# Altium schematic symbol library FPGA_Xilinx_Kintex7.SchLib: 18 symbols (part 1 of 6)
Pins are listed as number, name and electrical type; pins without a type are passive.

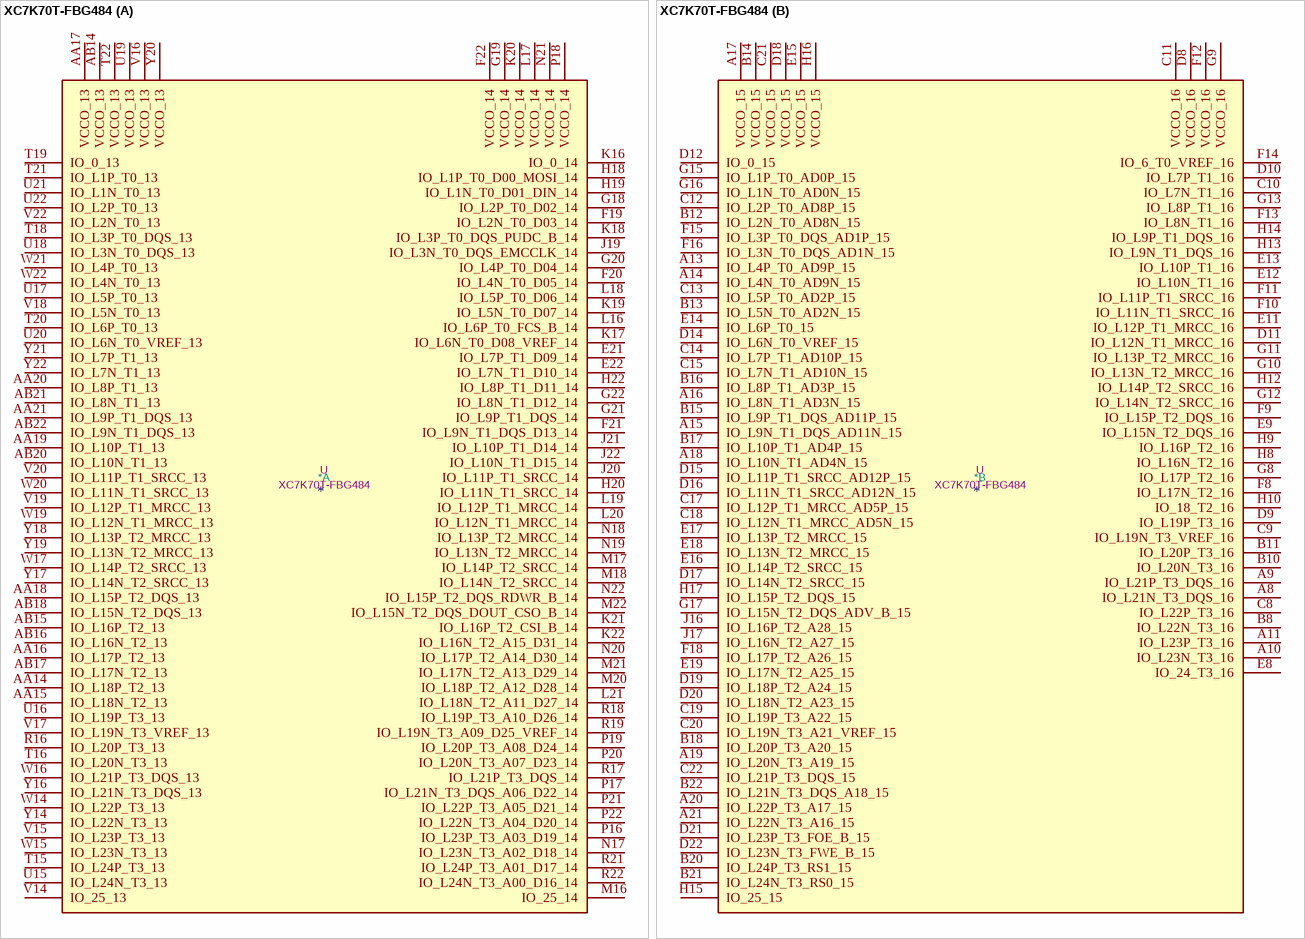
[diagram p0: symbol XC7K70T-FBG484]

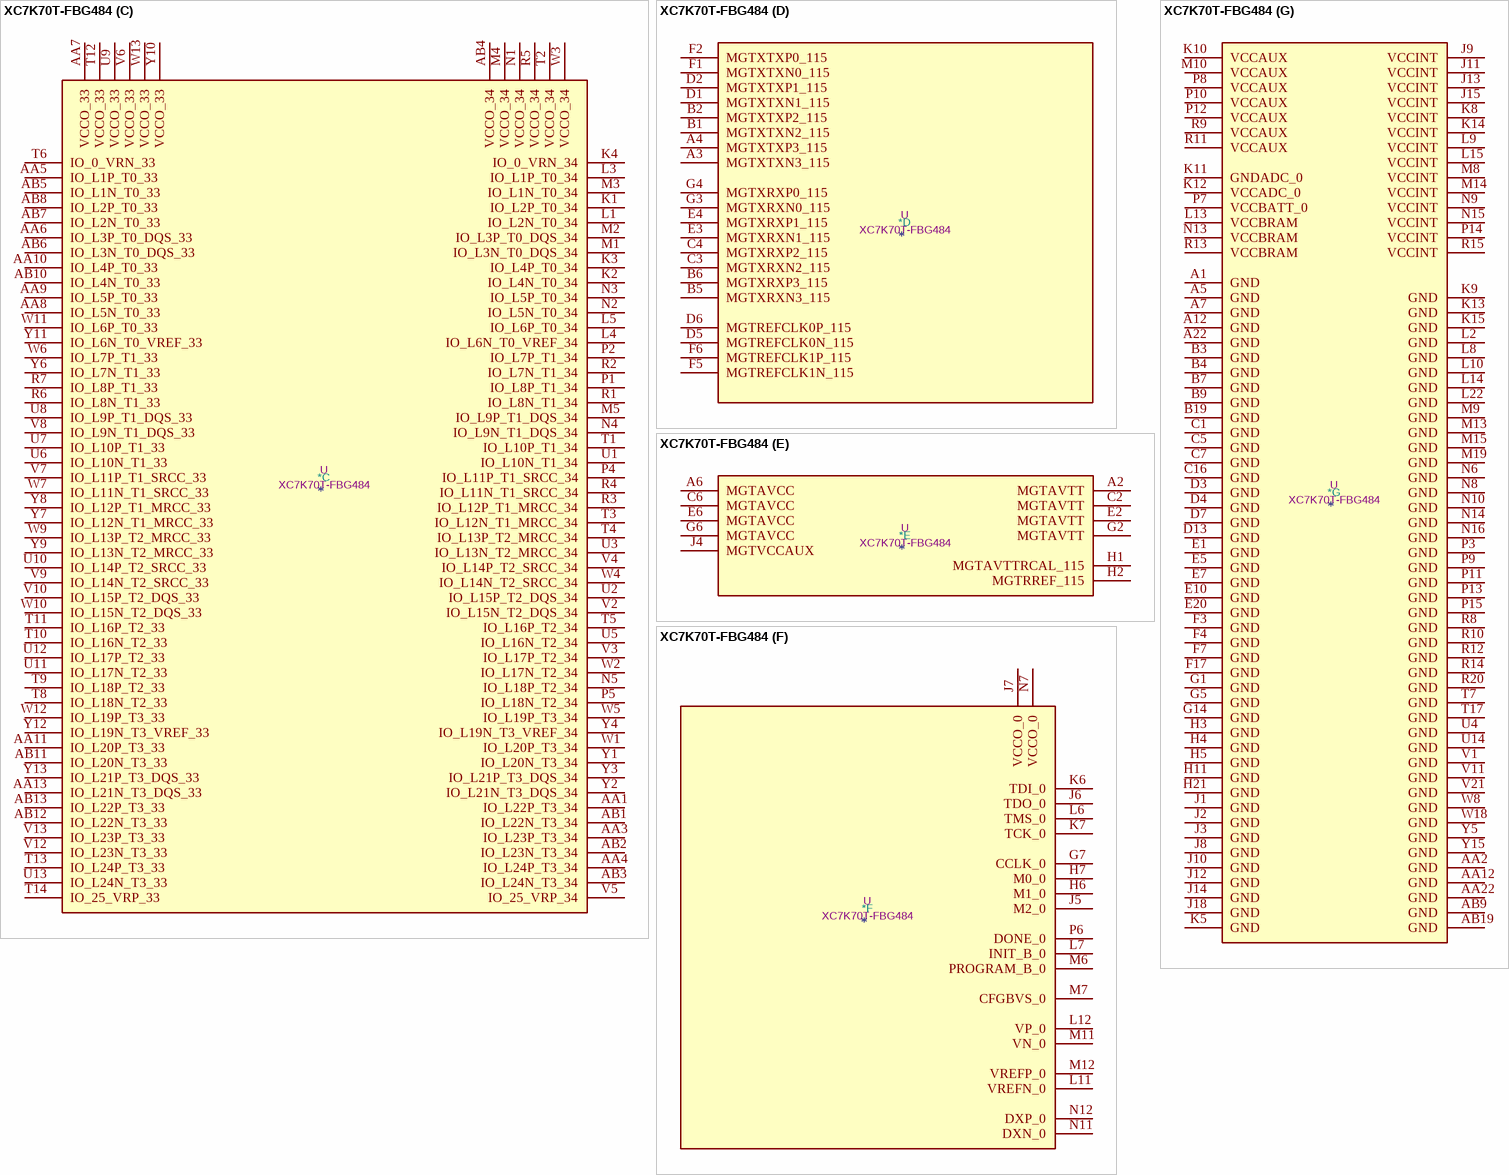
[diagram p1: symbol XC7K70T-FBG484]

## XC7K70T-FBG484
designator *  value XC7K70T-FBG484  Reference: U
ki_keywords: FPGA; ki_description: Kintex 7 T 70 XC7K70T-FBG484
part A pins: AA14 IO_L18P_T2_13, AA15 IO_L18N_T2_13, AA16 IO_L17P_T2_13, AA17 VCCO_13, AA18 IO_L15P_T2_DQS_13, AA19 IO_L10P_T1_13, AA20 IO_L8P_T1_13, AA21 IO_L9P_T1_DQS_13, AB14 VCCO_13, AB15 IO_L16P_T2_13, AB16 IO_L16N_T2_13, AB17 IO_L17N_T2_13, AB18 IO_L15N_T2_DQS_13, AB20 IO_L10N_T1_13, AB21 IO_L8N_T1_13, AB22 IO_L9N_T1_DQS_13, E21 IO_L7P_T1_D09_14, E22 IO_L7N_T1_D10_14, F19 IO_L2N_T0_D03_14, F20 IO_L4N_T0_D05_14, F21 IO_L9N_T1_DQS_D13_14, F22 VCCO_14, G18 IO_L2P_T0_D02_14, G19 VCCO_14, G20 IO_L4P_T0_D04_14, G21 IO_L9P_T1_DQS_14, G22 IO_L8N_T1_D12_14, H18 IO_L1P_T0_D00_MOSI_14, H19 IO_L1N_T0_D01_DIN_14, H20 IO_L11N_T1_SRCC_14, H22 IO_L8P_T1_D11_14, J19 IO_L3N_T0_DQS_EMCCLK_14, J20 IO_L11P_T1_SRCC_14, J21 IO_L10P_T1_D14_14, J22 IO_L10N_T1_D15_14, K16 IO_0_14, K17 IO_L6N_T0_D08_VREF_14, K18 IO_L3P_T0_DQS_PUDC_B_14, K19 IO_L5N_T0_D07_14, K20 VCCO_14, K21 IO_L16P_T2_CSI_B_14, K22 IO_L16N_T2_A15_D31_14, L16 IO_L6P_T0_FCS_B_14, L17 VCCO_14, L18 IO_L5P_T0_D06_14, L19 IO_L12P_T1_MRCC_14, L20 IO_L12N_T1_MRCC_14, L21 IO_L18N_T2_A11_D27_14, M16 IO_25_14, M17 IO_L14P_T2_SRCC_14, M18 IO_L14N_T2_SRCC_14, M20 IO_L18P_T2_A12_D28_14, M21 IO_L17N_T2_A13_D29_14, M22 IO_L15N_T2_DQS_DOUT_CSO_B_14, N17 IO_L23N_T3_A02_D18_14, N18 IO_L13P_T2_MRCC_14, N19 IO_L13N_T2_MRCC_14, N20 IO_L17P_T2_A14_D30_14, N21 VCCO_14, N22 IO_L15P_T2_DQS_RDWR_B_14, P16 IO_L23P_T3_A03_D19_14, P17 IO_L21N_T3_DQS_A06_D22_14, P18 VCCO_14, P19 IO_L20P_T3_A08_D24_14, P20 IO_L20N_T3_A07_D23_14, P21 IO_L22P_T3_A05_D21_14, P22 IO_L22N_T3_A04_D20_14, R16 IO_L20P_T3_13, R17 IO_L21P_T3_DQS_14, R18 IO_L19P_T3_A10_D26_14, R19 IO_L19N_T3_A09_D25_VREF_14, R21 IO_L24P_T3_A01_D17_14, R22 IO_L24N_T3_A00_D16_14, T15 IO_L24P_T3_13, T16 IO_L20N_T3_13, T18 IO_L3P_T0_DQS_13, T19 IO_0_13, T20 IO_L6P_T0_13, T21 IO_L1P_T0_13, T22 VCCO_13, U15 IO_L24N_T3_13, U16 IO_L19P_T3_13, U17 IO_L5P_T0_13, U18 IO_L3N_T0_DQS_13, U19 VCCO_13, U20 IO_L6N_T0_VREF_13, U21 IO_L1N_T0_13, U22 IO_L2P_T0_13, V14 IO_25_13, V15 IO_L23P_T3_13, V16 VCCO_13, V17 IO_L19N_T3_VREF_13, V18 IO_L5N_T0_13, V19 IO_L12P_T1_MRCC_13, V20 IO_L11P_T1_SRCC_13, V22 IO_L2N_T0_13, W14 IO_L22P_T3_13, W15 IO_L23N_T3_13, W16 IO_L21P_T3_DQS_13, W17 IO_L14P_T2_SRCC_13, W19 IO_L12N_T1_MRCC_13, W20 IO_L11N_T1_SRCC_13, W21 IO_L4P_T0_13, W22 IO_L4N_T0_13, Y14 IO_L22N_T3_13, Y16 IO_L21N_T3_DQS_13, Y17 IO_L14N_T2_SRCC_13, Y18 IO_L13P_T2_MRCC_13, Y19 IO_L13N_T2_MRCC_13, Y20 VCCO_13, Y21 IO_L7P_T1_13, Y22 IO_L7N_T1_13
part B pins: A8 IO_L21N_T3_DQS_16, A9 IO_L21P_T3_DQS_16, A10 IO_L23N_T3_16, A11 IO_L23P_T3_16, A13 IO_L4P_T0_AD9P_15, A14 IO_L4N_T0_AD9N_15, A15 IO_L9N_T1_DQS_AD11N_15, A16 IO_L8N_T1_AD3N_15, A17 VCCO_15, A18 IO_L10N_T1_AD4N_15, A19 IO_L20N_T3_A19_15, A20 IO_L22P_T3_A17_15, A21 IO_L22N_T3_A16_15, B8 IO_L22N_T3_16, B10 IO_L20N_T3_16, B11 IO_L20P_T3_16, B12 IO_L2N_T0_AD8N_15, B13 IO_L5N_T0_AD2N_15, B14 VCCO_15, B15 IO_L9P_T1_DQS_AD11P_15, B16 IO_L8P_T1_AD3P_15, B17 IO_L10P_T1_AD4P_15, B18 IO_L20P_T3_A20_15, B20 IO_L24P_T3_RS1_15, B21 IO_L24N_T3_RS0_15, B22 IO_L21N_T3_DQS_A18_15, C8 IO_L22P_T3_16, C9 IO_L19N_T3_VREF_16, C10 IO_L7N_T1_16, C11 VCCO_16, C12 IO_L2P_T0_AD8P_15, C13 IO_L5P_T0_AD2P_15, C14 IO_L7P_T1_AD10P_15, C15 IO_L7N_T1_AD10N_15, C17 IO_L12P_T1_MRCC_AD5P_15, C18 IO_L12N_T1_MRCC_AD5N_15, C19 IO_L19P_T3_A22_15, C20 IO_L19N_T3_A21_VREF_15, C21 VCCO_15, C22 IO_L21P_T3_DQS_15, D8 VCCO_16, D9 IO_L19P_T3_16, D10 IO_L7P_T1_16, D11 IO_L12N_T1_MRCC_16, D12 IO_0_15, D14 IO_L6N_T0_VREF_15, D15 IO_L11P_T1_SRCC_AD12P_15, D16 IO_L11N_T1_SRCC_AD12N_15, D17 IO_L14N_T2_SRCC_15, D18 VCCO_15, D19 IO_L18P_T2_A24_15, D20 IO_L18N_T2_A23_15, D21 IO_L23P_T3_FOE_B_15, D22 IO_L23N_T3_FWE_B_15, E8 IO_24_T3_16, E9 IO_L15N_T2_DQS_16, E11 IO_L12P_T1_MRCC_16, E12 IO_L10N_T1_16, E13 IO_L10P_T1_16, E14 IO_L6P_T0_15, E15 VCCO_15, E16 IO_L14P_T2_SRCC_15, E17 IO_L13P_T2_MRCC_15, E18 IO_L13N_T2_MRCC_15, E19 IO_L17N_T2_A25_15, F8 IO_L17N_T2_16, F9 IO_L15P_T2_DQS_16, F10 IO_L11N_T1_SRCC_16, F11 IO_L11P_T1_SRCC_16, F12 VCCO_16, F13 IO_L8N_T1_16, F14 IO_6_T0_VREF_16, F15 IO_L3P_T0_DQS_AD1P_15, F16 IO_L3N_T0_DQS_AD1N_15, F18 IO_L17P_T2_A26_15, G8 IO_L17P_T2_16, G9 VCCO_16, G10 IO_L13N_T2_MRCC_16, G11 IO_L13P_T2_MRCC_16, G12 IO_L14N_T2_SRCC_16, G13 IO_L8P_T1_16, G15 IO_L1P_T0_AD0P_15, G16 IO_L1N_T0_AD0N_15, G17 IO_L15N_T2_DQS_ADV_B_15, H8 IO_L16N_T2_16, H9 IO_L16P_T2_16, H10 IO_18_T2_16, H12 IO_L14P_T2_SRCC_16, H13 IO_L9N_T1_DQS_16, H14 IO_L9P_T1_DQS_16, H15 IO_25_15, H16 VCCO_15, H17 IO_L15P_T2_DQS_15, J16 IO_L16P_T2_A28_15, J17 IO_L16N_T2_A27_15
part C pins: AA1 IO_L22P_T3_34, AA3 IO_L23P_T3_34, AA4 IO_L24P_T3_34, AA5 IO_L1P_T0_33, AA6 IO_L3P_T0_DQS_33, AA7 VCCO_33, AA8 IO_L5N_T0_33, AA9 IO_L5P_T0_33, AA10 IO_L4P_T0_33, AA11 IO_L20P_T3_33, AA13 IO_L21N_T3_DQS_33, AB1 IO_L22N_T3_34, AB2 IO_L23N_T3_34, AB3 IO_L24N_T3_34, AB4 VCCO_34, AB5 IO_L1N_T0_33, AB6 IO_L3N_T0_DQS_33, AB7 IO_L2N_T0_33, AB8 IO_L2P_T0_33, AB10 IO_L4N_T0_33, AB11 IO_L20N_T3_33, AB12 IO_L22N_T3_33, AB13 IO_L22P_T3_33, K1 IO_L2P_T0_34, K2 IO_L4N_T0_34, K3 IO_L4P_T0_34, K4 IO_0_VRN_34, L1 IO_L2N_T0_34, L3 IO_L1P_T0_34, L4 IO_L6N_T0_VREF_34, L5 IO_L6P_T0_34, M1 IO_L3N_T0_DQS_34, M2 IO_L3P_T0_DQS_34, M3 IO_L1N_T0_34, M4 VCCO_34, M5 IO_L9P_T1_DQS_34, N1 VCCO_34, N2 IO_L5N_T0_34, N3 IO_L5P_T0_34, N4 IO_L9N_T1_DQS_34, N5 IO_L18P_T2_34, P1 IO_L8P_T1_34, P2 IO_L7P_T1_34, P4 IO_L11P_T1_SRCC_34, P5 IO_L18N_T2_34, R1 IO_L8N_T1_34, R2 IO_L7N_T1_34, R3 IO_L12P_T1_MRCC_34, R4 IO_L11N_T1_SRCC_34, R5 VCCO_34, R6 IO_L8N_T1_33, R7 IO_L8P_T1_33, T1 IO_L10P_T1_34, T2 VCCO_34, T3 IO_L12N_T1_MRCC_34, T4 IO_L13P_T2_MRCC_34, T5 IO_L16P_T2_34, T6 IO_0_VRN_33, T8 IO_L18N_T2_33, T9 IO_L18P_T2_33, T10 IO_L16N_T2_33, T11 IO_L16P_T2_33, T12 VCCO_33, T13 IO_L24P_T3_33, T14 IO_25_VRP_33, U1 IO_L10N_T1_34, U2 IO_L15P_T2_DQS_34, U3 IO_L13N_T2_MRCC_34, U5 IO_L16N_T2_34, U6 IO_L10N_T1_33, U7 IO_L10P_T1_33, U8 IO_L9P_T1_DQS_33, U9 VCCO_33, U10 IO_L14P_T2_SRCC_33, U11 IO_L17N_T2_33, U12 IO_L17P_T2_33, U13 IO_L24N_T3_33, V2 IO_L15N_T2_DQS_34, V3 IO_L17P_T2_34, V4 IO_L14P_T2_SRCC_34, V5 IO_25_VRP_34, V6 VCCO_33, V7 IO_L11P_T1_SRCC_33, V8 IO_L9N_T1_DQS_33, V9 IO_L14N_T2_SRCC_33, V10 IO_L15P_T2_DQS_33, V12 IO_L23N_T3_33, V13 IO_L23P_T3_33, W1 IO_L20P_T3_34, W2 IO_L17N_T2_34, W3 VCCO_34, W4 IO_L14N_T2_SRCC_34, W5 IO_L19P_T3_34, W6 IO_L7P_T1_33, W7 IO_L11N_T1_SRCC_33, W9 IO_L13P_T2_MRCC_33, W10 IO_L15N_T2_DQS_33, W11 IO_L6P_T0_33, W12 IO_L19P_T3_33, W13 VCCO_33, Y1 IO_L20N_T3_34, Y2 IO_L21N_T3_DQS_34, Y3 IO_L21P_T3_DQS_34, Y4 IO_L19N_T3_VREF_34, Y6 IO_L7N_T1_33, Y7 IO_L12N_T1_MRCC_33, Y8 IO_L12P_T1_MRCC_33, Y9 IO_L13N_T2_MRCC_33, Y10 VCCO_33, Y11 IO_L6N_T0_VREF_33, Y12 IO_L19N_T3_VREF_33, Y13 IO_L21P_T3_DQS_33
part D pins: A3 MGTXTXN3_115, A4 MGTXTXP3_115, B1 MGTXTXN2_115, B2 MGTXTXP2_115, B5 MGTXRXN3_115, B6 MGTXRXP3_115, C3 MGTXRXN2_115, C4 MGTXRXP2_115, D1 MGTXTXN1_115, D2 MGTXTXP1_115, D5 MGTREFCLK0N_115, D6 MGTREFCLK0P_115, E3 MGTXRXN1_115, E4 MGTXRXP1_115, F1 MGTXTXN0_115, F2 MGTXTXP0_115, F5 MGTREFCLK1N_115, F6 MGTREFCLK1P_115, G3 MGTXRXN0_115, G4 MGTXRXP0_115
part E pins: A2 MGTAVTT, A6 MGTAVCC, C2 MGTAVTT, C6 MGTAVCC, E2 MGTAVTT, E6 MGTAVCC, G2 MGTAVTT, G6 MGTAVCC, H1 MGTAVTTRCAL_115, H2 MGTRREF_115, J4 MGTVCCAUX
part F pins: G7 CCLK_0, H6 M1_0, H7 M0_0, J5 M2_0, J6 TDO_0, J7 VCCO_0, K6 TDI_0, K7 TCK_0, L6 TMS_0, L7 INIT_B_0, L11 VREFN_0, L12 VP_0, M6 PROGRAM_B_0, M7 CFGBVS_0, M11 VN_0, M12 VREFP_0, N7 VCCO_0, N11 DXN_0, N12 DXP_0, P6 DONE_0
part G pins: A1 GND, A5 GND, A7 GND, A12 GND, A22 GND, AA2 GND, AA12 GND, AA22 GND, AB9 GND, AB19 GND, B3 GND, B4 GND, B7 GND, B9 GND, B19 GND, C1 GND, C5 GND, C7 GND, C16 GND, D3 GND, D4 GND, D7 GND, D13 GND, E1 GND, E5 GND, E7 GND, E10 GND, E20 GND, F3 GND, F4 GND, F7 GND, F17 GND, G1 GND, G5 GND, G14 GND, H3 GND, H4 GND, H5 GND, H11 GND, H21 GND, J1 GND, J2 GND, J3 GND, J8 GND, J9 VCCINT, J10 GND, J11 VCCINT, J12 GND, J13 VCCINT, J14 GND, J15 VCCINT, J18 GND, K5 GND, K8 VCCINT, K9 GND, K10 VCCAUX, K11 GNDADC_0, K12 VCCADC_0, K13 GND, K14 VCCINT, K15 GND, L2 GND, L8 GND, L9 VCCINT, L10 GND, L13 VCCBRAM, L14 GND, L15 VCCINT, L22 GND, M8 VCCINT, M9 GND, M10 VCCAUX, M13 GND, M14 VCCINT, M15 GND, M19 GND, N6 GND, N8 GND, N9 VCCINT, N10 GND, N13 VCCBRAM, N14 GND, N15 VCCINT, N16 GND, P3 GND, P7 VCCBATT_0, P8 VCCAUX, P9 GND, P10 VCCAUX, P11 GND, P12 VCCAUX, P13 GND, P14 VCCINT, P15 GND, R8 GND, R9 VCCAUX, R10 GND, R11 VCCAUX, R12 GND, R13 VCCBRAM, R14 GND, R15 VCCINT, R20 GND, T7 GND, T17 GND, U4 GND, U14 GND, V1 GND, V11 GND, V21 GND, W8 GND, W18 GND, Y5 GND, Y15 GND

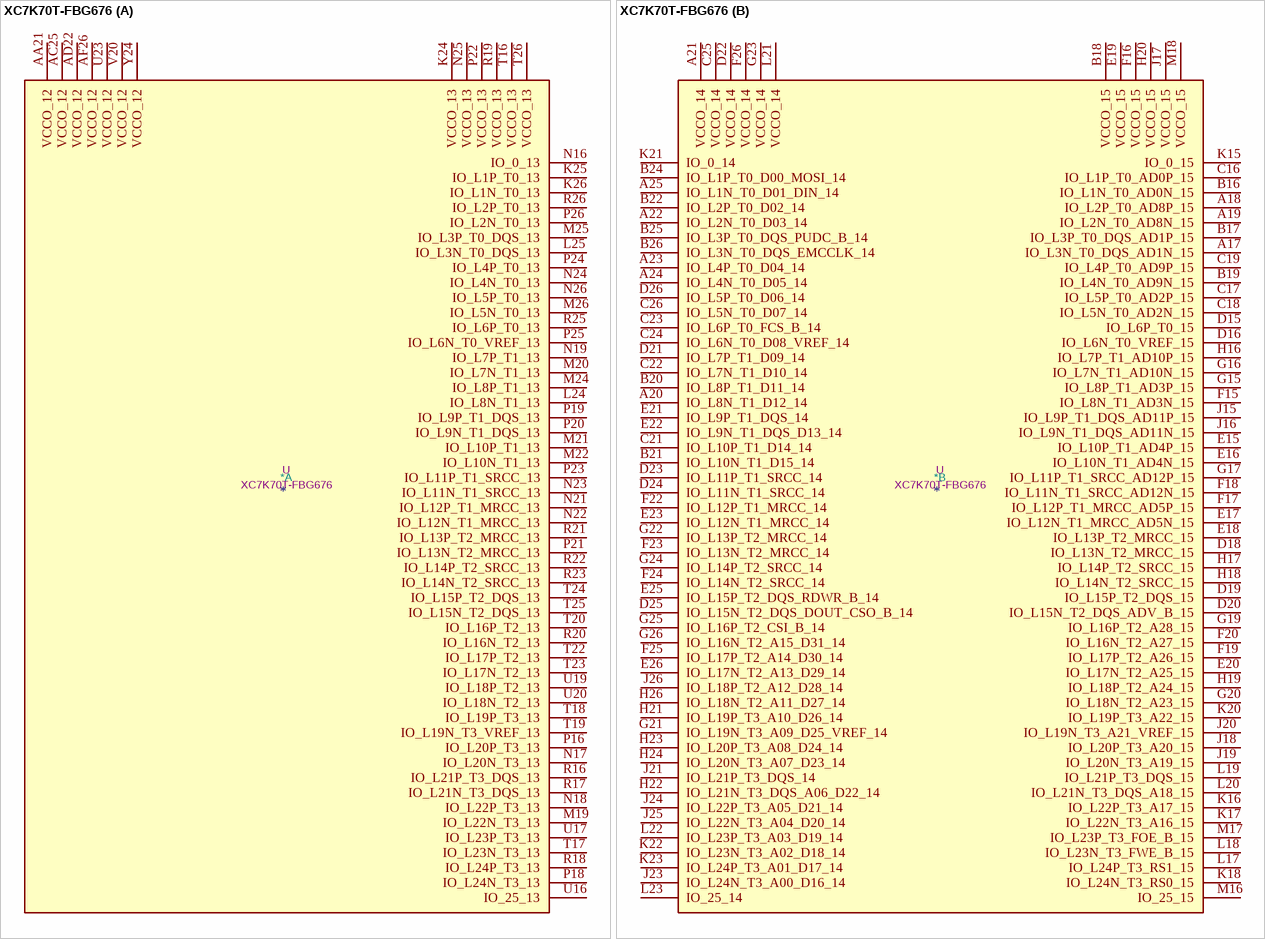
[diagram p2: symbol XC7K70T-FBG676]

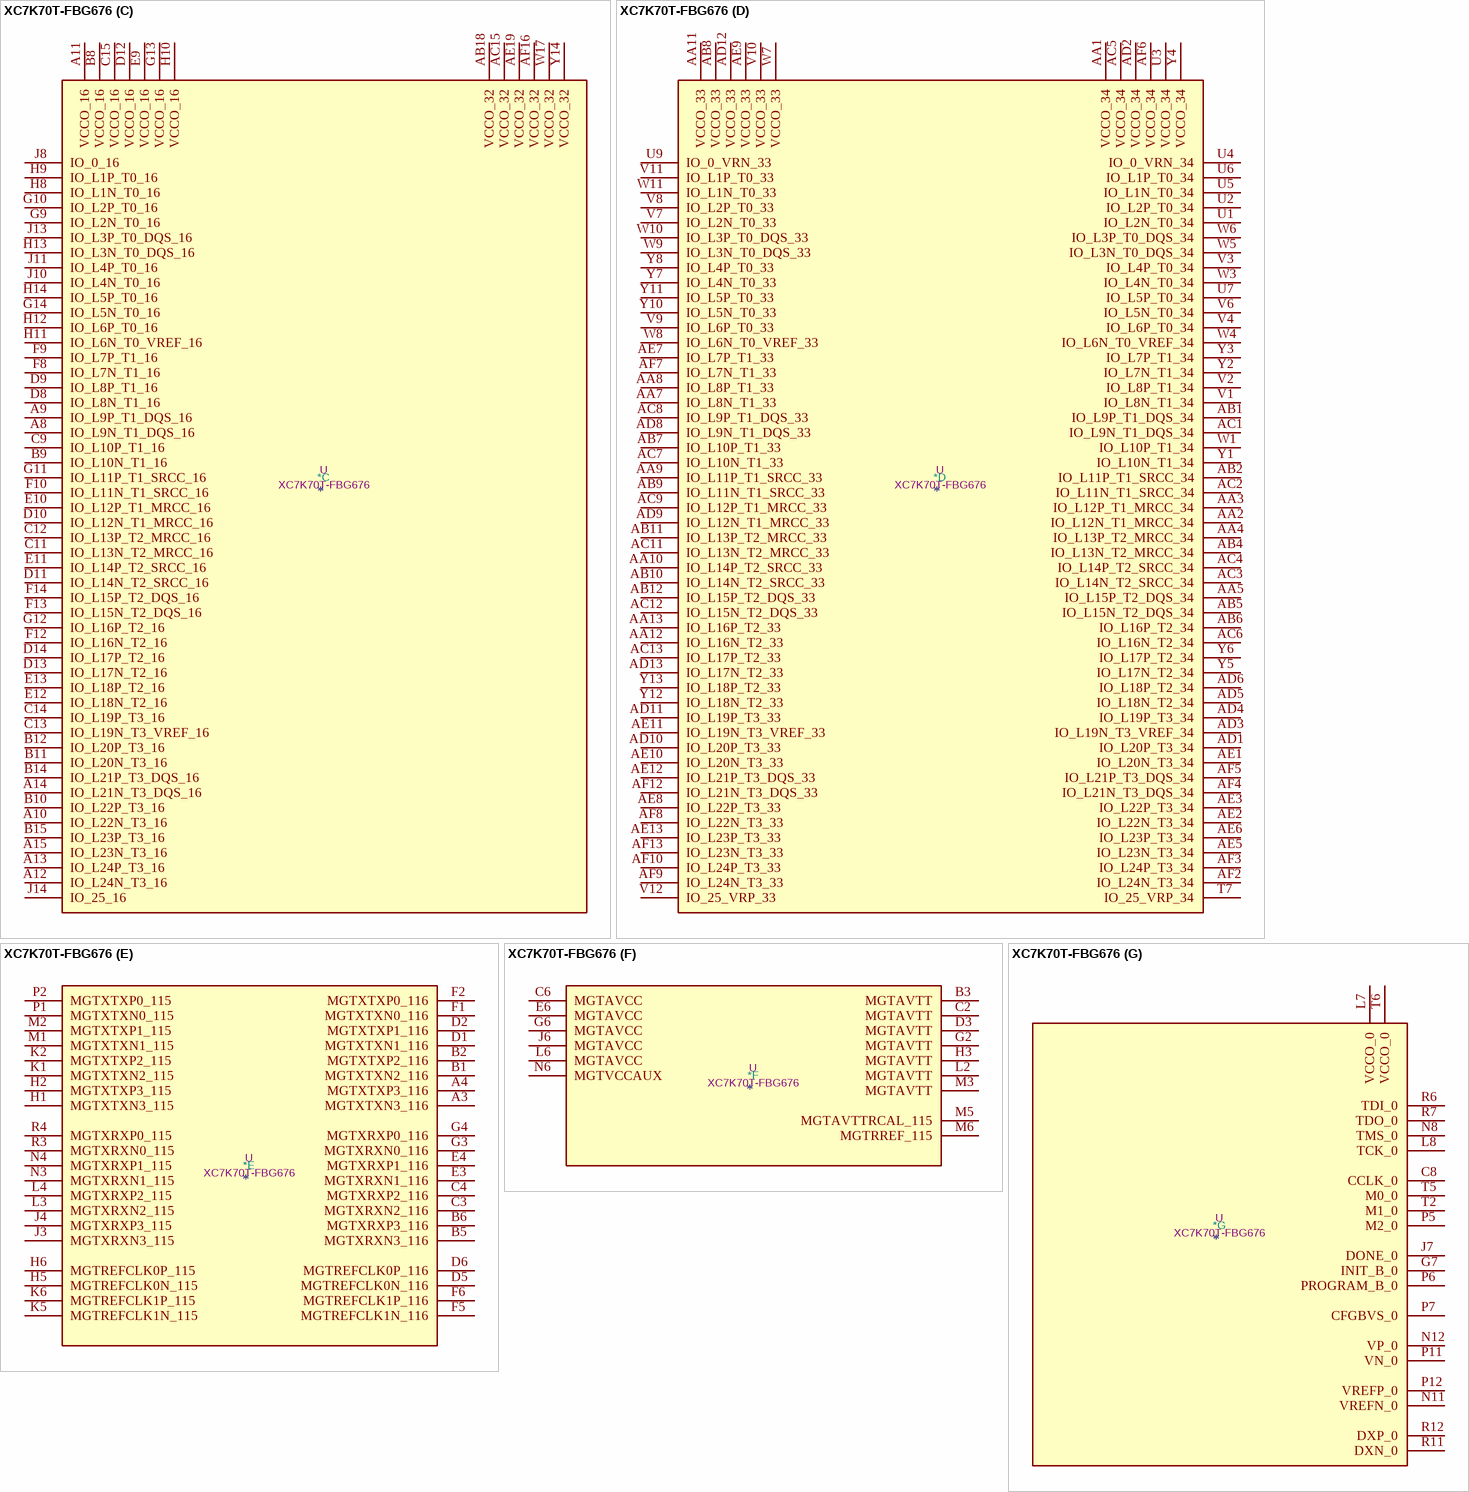
[diagram p3: symbol XC7K70T-FBG676]

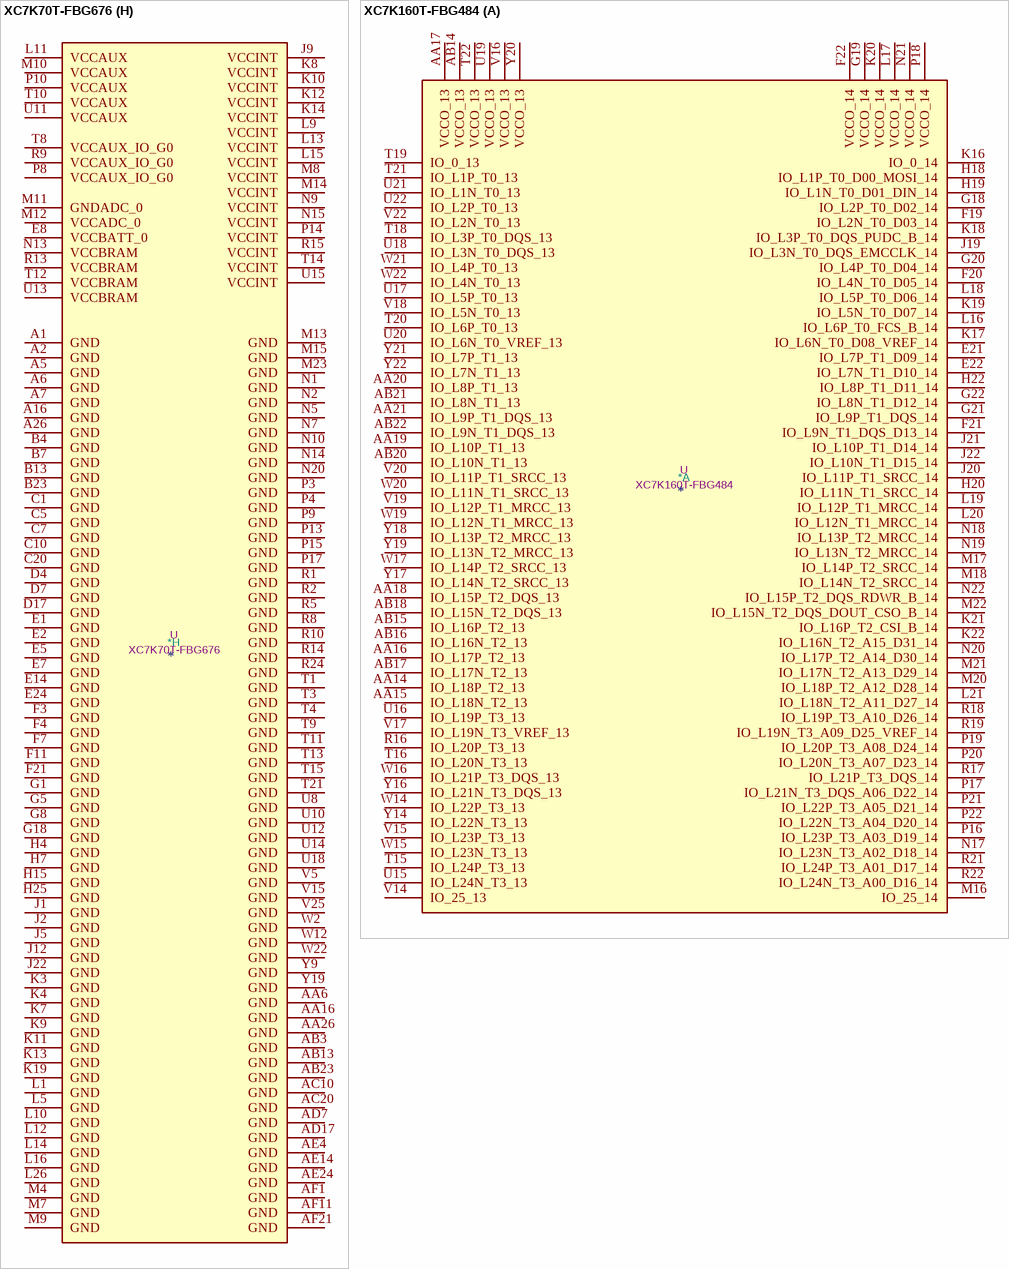
[diagram p4: symbols XC7K70T-FBG676 to XC7K160T-FBG484]

## XC7K70T-FBG676
designator *  value XC7K70T-FBG676  Reference: U
ki_keywords: FPGA; ki_description: Kintex 7 T 70 XC7K70T-FBG676
part A pins: AA21 VCCO_12, AC25 VCCO_12, AD22 VCCO_12, AF26 VCCO_12, K24 VCCO_13, K25 IO_L1P_T0_13, K26 IO_L1N_T0_13, L24 IO_L8N_T1_13, L25 IO_L3N_T0_DQS_13, M19 IO_L22N_T3_13, M20 IO_L7N_T1_13, M21 IO_L10P_T1_13, M22 IO_L10N_T1_13, M24 IO_L8P_T1_13, M25 IO_L3P_T0_DQS_13, M26 IO_L5N_T0_13, N16 IO_0_13, N17 IO_L20N_T3_13, N18 IO_L22P_T3_13, N19 IO_L7P_T1_13, N21 IO_L12P_T1_MRCC_13, N22 IO_L12N_T1_MRCC_13, N23 IO_L11N_T1_SRCC_13, N24 IO_L4N_T0_13, N25 VCCO_13, N26 IO_L5P_T0_13, P16 IO_L20P_T3_13, P18 IO_L24N_T3_13, P19 IO_L9P_T1_DQS_13, P20 IO_L9N_T1_DQS_13, P21 IO_L13N_T2_MRCC_13, P22 VCCO_13, P23 IO_L11P_T1_SRCC_13, P24 IO_L4P_T0_13, P25 IO_L6N_T0_VREF_13, P26 IO_L2N_T0_13, R16 IO_L21P_T3_DQS_13, R17 IO_L21N_T3_DQS_13, R18 IO_L24P_T3_13, R19 VCCO_13, R20 IO_L16N_T2_13, R21 IO_L13P_T2_MRCC_13, R22 IO_L14P_T2_SRCC_13, R23 IO_L14N_T2_SRCC_13, R25 IO_L6P_T0_13, R26 IO_L2P_T0_13, T16 VCCO_13, T17 IO_L23N_T3_13, T18 IO_L19P_T3_13, T19 IO_L19N_T3_VREF_13, T20 IO_L16P_T2_13, T22 IO_L17P_T2_13, T23 IO_L17N_T2_13, T24 IO_L15P_T2_DQS_13, T25 IO_L15N_T2_DQS_13, T26 VCCO_13, U16 IO_25_13, U17 IO_L23P_T3_13, U19 IO_L18P_T2_13, U20 IO_L18N_T2_13, U23 VCCO_12, V20 VCCO_12, Y24 VCCO_12
part B pins: A17 IO_L3N_T0_DQS_AD1N_15, A18 IO_L2P_T0_AD8P_15, A19 IO_L2N_T0_AD8N_15, A20 IO_L8N_T1_D12_14, A21 VCCO_14, A22 IO_L2N_T0_D03_14, A23 IO_L4P_T0_D04_14, A24 IO_L4N_T0_D05_14, A25 IO_L1N_T0_D01_DIN_14, B16 IO_L1N_T0_AD0N_15, B17 IO_L3P_T0_DQS_AD1P_15, B18 VCCO_15, B19 IO_L4N_T0_AD9N_15, B20 IO_L8P_T1_D11_14, B21 IO_L10N_T1_D15_14, B22 IO_L2P_T0_D02_14, B24 IO_L1P_T0_D00_MOSI_14, B25 IO_L3P_T0_DQS_PUDC_B_14, B26 IO_L3N_T0_DQS_EMCCLK_14, C16 IO_L1P_T0_AD0P_15, C17 IO_L5P_T0_AD2P_15, C18 IO_L5N_T0_AD2N_15, C19 IO_L4P_T0_AD9P_15, C21 IO_L10P_T1_D14_14, C22 IO_L7N_T1_D10_14, C23 IO_L6P_T0_FCS_B_14, C24 IO_L6N_T0_D08_VREF_14, C25 VCCO_14, C26 IO_L5N_T0_D07_14, D15 IO_L6P_T0_15, D16 IO_L6N_T0_VREF_15, D18 IO_L13N_T2_MRCC_15, D19 IO_L15P_T2_DQS_15, D20 IO_L15N_T2_DQS_ADV_B_15, D21 IO_L7P_T1_D09_14, D22 VCCO_14, D23 IO_L11P_T1_SRCC_14, D24 IO_L11N_T1_SRCC_14, D25 IO_L15N_T2_DQS_DOUT_CSO_B_14, D26 IO_L5P_T0_D06_14, E15 IO_L10P_T1_AD4P_15, E16 IO_L10N_T1_AD4N_15, E17 IO_L12N_T1_MRCC_AD5N_15, E18 IO_L13P_T2_MRCC_15, E19 VCCO_15, E20 IO_L17N_T2_A25_15, E21 IO_L9P_T1_DQS_14, E22 IO_L9N_T1_DQS_D13_14, E23 IO_L12N_T1_MRCC_14, E25 IO_L15P_T2_DQS_RDWR_B_14, E26 IO_L17N_T2_A13_D29_14, F15 IO_L8N_T1_AD3N_15, F16 VCCO_15, F17 IO_L12P_T1_MRCC_AD5P_15, F18 IO_L11N_T1_SRCC_AD12N_15, F19 IO_L17P_T2_A26_15, F20 IO_L16N_T2_A27_15, F22 IO_L12P_T1_MRCC_14, F23 IO_L13N_T2_MRCC_14, F24 IO_L14N_T2_SRCC_14, F25 IO_L17P_T2_A14_D30_14, F26 VCCO_14, G15 IO_L8P_T1_AD3P_15, G16 IO_L7N_T1_AD10N_15, G17 IO_L11P_T1_SRCC_AD12P_15, G19 IO_L16P_T2_A28_15, G20 IO_L18N_T2_A23_15, G21 IO_L19N_T3_A09_D25_VREF_14, G22 IO_L13P_T2_MRCC_14, G23 VCCO_14, G24 IO_L14P_T2_SRCC_14, G25 IO_L16P_T2_CSI_B_14, G26 IO_L16N_T2_A15_D31_14, H16 IO_L7P_T1_AD10P_15, H17 IO_L14P_T2_SRCC_15, H18 IO_L14N_T2_SRCC_15, H19 IO_L18P_T2_A24_15, H20 VCCO_15, H21 IO_L19P_T3_A10_D26_14, H22 IO_L21N_T3_DQS_A06_D22_14, H23 IO_L20P_T3_A08_D24_14, H24 IO_L20N_T3_A07_D23_14, H26 IO_L18N_T2_A11_D27_14, J15 IO_L9P_T1_DQS_AD11P_15, J16 IO_L9N_T1_DQS_AD11N_15, J17 VCCO_15, J18 IO_L20P_T3_A20_15, J19 IO_L20N_T3_A19_15, J20 IO_L19N_T3_A21_VREF_15, J21 IO_L21P_T3_DQS_14, J23 IO_L24N_T3_A00_D16_14, J24 IO_L22P_T3_A05_D21_14, J25 IO_L22N_T3_A04_D20_14, J26 IO_L18P_T2_A12_D28_14, K15 IO_0_15, K16 IO_L22P_T3_A17_15, K17 IO_L22N_T3_A16_15, K18 IO_L24N_T3_RS0_15, K20 IO_L19P_T3_A22_15, K21 IO_0_14, K22 IO_L23N_T3_A02_D18_14, K23 IO_L24P_T3_A01_D17_14, L17 IO_L24P_T3_RS1_15, L18 IO_L23N_T3_FWE_B_15, L19 IO_L21P_T3_DQS_15, L20 IO_L21N_T3_DQS_A18_15, L21 VCCO_14, L22 IO_L23P_T3_A03_D19_14, L23 IO_25_14, M16 IO_25_15, M17 IO_L23P_T3_FOE_B_15, M18 VCCO_15
part C pins: A8 IO_L9N_T1_DQS_16, A9 IO_L9P_T1_DQS_16, A10 IO_L22N_T3_16, A11 VCCO_16, A12 IO_L24N_T3_16, A13 IO_L24P_T3_16, A14 IO_L21N_T3_DQS_16, A15 IO_L23N_T3_16, AB18 VCCO_32, AC15 VCCO_32, AE19 VCCO_32, AF16 VCCO_32, B8 VCCO_16, B9 IO_L10N_T1_16, B10 IO_L22P_T3_16, B11 IO_L20N_T3_16, B12 IO_L20P_T3_16, B14 IO_L21P_T3_DQS_16, B15 IO_L23P_T3_16, C9 IO_L10P_T1_16, C11 IO_L13N_T2_MRCC_16, C12 IO_L13P_T2_MRCC_16, C13 IO_L19N_T3_VREF_16, C14 IO_L19P_T3_16, C15 VCCO_16, D8 IO_L8N_T1_16, D9 IO_L8P_T1_16, D10 IO_L12N_T1_MRCC_16, D11 IO_L14N_T2_SRCC_16, D12 VCCO_16, D13 IO_L17N_T2_16, D14 IO_L17P_T2_16, E9 VCCO_16, E10 IO_L12P_T1_MRCC_16, E11 IO_L14P_T2_SRCC_16, E12 IO_L18N_T2_16, E13 IO_L18P_T2_16, F8 IO_L7N_T1_16, F9 IO_L7P_T1_16, F10 IO_L11N_T1_SRCC_16, F12 IO_L16N_T2_16, F13 IO_L15N_T2_DQS_16, F14 IO_L15P_T2_DQS_16, G9 IO_L2N_T0_16, G10 IO_L2P_T0_16, G11 IO_L11P_T1_SRCC_16, G12 IO_L16P_T2_16, G13 VCCO_16, G14 IO_L5N_T0_16, H8 IO_L1N_T0_16, H9 IO_L1P_T0_16, H10 VCCO_16, H11 IO_L6N_T0_VREF_16, H12 IO_L6P_T0_16, H13 IO_L3N_T0_DQS_16, H14 IO_L5P_T0_16, J8 IO_0_16, J10 IO_L4N_T0_16, J11 IO_L4P_T0_16, J13 IO_L3P_T0_DQS_16, J14 IO_25_16, W17 VCCO_32, Y14 VCCO_32
part D pins: AA1 VCCO_34, AA2 IO_L12N_T1_MRCC_34, AA3 IO_L12P_T1_MRCC_34, AA4 IO_L13P_T2_MRCC_34, AA5 IO_L15P_T2_DQS_34, AA7 IO_L8N_T1_33, AA8 IO_L8P_T1_33, AA9 IO_L11P_T1_SRCC_33, AA10 IO_L14P_T2_SRCC_33, AA11 VCCO_33, AA12 IO_L16N_T2_33, AA13 IO_L16P_T2_33, AB1 IO_L9P_T1_DQS_34, AB2 IO_L11P_T1_SRCC_34, AB4 IO_L13N_T2_MRCC_34, AB5 IO_L15N_T2_DQS_34, AB6 IO_L16P_T2_34, AB7 IO_L10P_T1_33, AB8 VCCO_33, AB9 IO_L11N_T1_SRCC_33, AB10 IO_L14N_T2_SRCC_33, AB11 IO_L13P_T2_MRCC_33, AB12 IO_L15P_T2_DQS_33, AC1 IO_L9N_T1_DQS_34, AC2 IO_L11N_T1_SRCC_34, AC3 IO_L14N_T2_SRCC_34, AC4 IO_L14P_T2_SRCC_34, AC5 VCCO_34, AC6 IO_L16N_T2_34, AC7 IO_L10N_T1_33, AC8 IO_L9P_T1_DQS_33, AC9 IO_L12P_T1_MRCC_33, AC11 IO_L13N_T2_MRCC_33, AC12 IO_L15N_T2_DQS_33, AC13 IO_L17P_T2_33, AD1 IO_L20P_T3_34, AD2 VCCO_34, AD3 IO_L19N_T3_VREF_34, AD4 IO_L19P_T3_34, AD5 IO_L18N_T2_34, AD6 IO_L18P_T2_34, AD8 IO_L9N_T1_DQS_33, AD9 IO_L12N_T1_MRCC_33, AD10 IO_L20P_T3_33, AD11 IO_L19P_T3_33, AD12 VCCO_33, AD13 IO_L17N_T2_33, AE1 IO_L20N_T3_34, AE2 IO_L22N_T3_34, AE3 IO_L22P_T3_34, AE5 IO_L23N_T3_34, AE6 IO_L23P_T3_34, AE7 IO_L7P_T1_33, AE8 IO_L22P_T3_33, AE9 VCCO_33, AE10 IO_L20N_T3_33, AE11 IO_L19N_T3_VREF_33, AE12 IO_L21P_T3_DQS_33, AE13 IO_L23P_T3_33, AF2 IO_L24N_T3_34, AF3 IO_L24P_T3_34, AF4 IO_L21N_T3_DQS_34, AF5 IO_L21P_T3_DQS_34, AF6 VCCO_34, AF7 IO_L7N_T1_33, AF8 IO_L22N_T3_33, AF9 IO_L24N_T3_33, AF10 IO_L24P_T3_33, AF12 IO_L21N_T3_DQS_33, AF13 IO_L23N_T3_33, T7 IO_25_VRP_34, U1 IO_L2N_T0_34, U2 IO_L2P_T0_34, U3 VCCO_34, U4 IO_0_VRN_34, U5 IO_L1N_T0_34, U6 IO_L1P_T0_34, U7 IO_L5P_T0_34, U9 IO_0_VRN_33, V1 IO_L8N_T1_34, V2 IO_L8P_T1_34, V3 IO_L4P_T0_34, V4 IO_L6P_T0_34, V6 IO_L5N_T0_34, V7 IO_L2N_T0_33, V8 IO_L2P_T0_33, V9 IO_L6P_T0_33, V10 VCCO_33, V11 IO_L1P_T0_33, V12 IO_25_VRP_33, W1 IO_L10P_T1_34, W3 IO_L4N_T0_34, W4 IO_L6N_T0_VREF_34, W5 IO_L3N_T0_DQS_34, W6 IO_L3P_T0_DQS_34, W7 VCCO_33, W8 IO_L6N_T0_VREF_33, W9 IO_L3N_T0_DQS_33, W10 IO_L3P_T0_DQS_33, W11 IO_L1N_T0_33, Y1 IO_L10N_T1_34, Y2 IO_L7N_T1_34, Y3 IO_L7P_T1_34, Y4 VCCO_34, Y5 IO_L17N_T2_34, Y6 IO_L17P_T2_34, Y7 IO_L4N_T0_33, Y8 IO_L4P_T0_33, Y10 IO_L5N_T0_33, Y11 IO_L5P_T0_33, Y12 IO_L18N_T2_33, Y13 IO_L18P_T2_33
part E pins: A3 MGTXTXN3_116, A4 MGTXTXP3_116, B1 MGTXTXN2_116, B2 MGTXTXP2_116, B5 MGTXRXN3_116, B6 MGTXRXP3_116, C3 MGTXRXN2_116, C4 MGTXRXP2_116, D1 MGTXTXN1_116, D2 MGTXTXP1_116, D5 MGTREFCLK0N_116, D6 MGTREFCLK0P_116, E3 MGTXRXN1_116, E4 MGTXRXP1_116, F1 MGTXTXN0_116, F2 MGTXTXP0_116, F5 MGTREFCLK1N_116, F6 MGTREFCLK1P_116, G3 MGTXRXN0_116, G4 MGTXRXP0_116, H1 MGTXTXN3_115, H2 MGTXTXP3_115, H5 MGTREFCLK0N_115, H6 MGTREFCLK0P_115, J3 MGTXRXN3_115, J4 MGTXRXP3_115, K1 MGTXTXN2_115, K2 MGTXTXP2_115, K5 MGTREFCLK1N_115, K6 MGTREFCLK1P_115, L3 MGTXRXN2_115, L4 MGTXRXP2_115, M1 MGTXTXN1_115, M2 MGTXTXP1_115, N3 MGTXRXN1_115, N4 MGTXRXP1_115, P1 MGTXTXN0_115, P2 MGTXTXP0_115, R3 MGTXRXN0_115, R4 MGTXRXP0_115
part F pins: B3 MGTAVTT, C2 MGTAVTT, C6 MGTAVCC, D3 MGTAVTT, E6 MGTAVCC, G2 MGTAVTT, G6 MGTAVCC, H3 MGTAVTT, J6 MGTAVCC, L2 MGTAVTT, L6 MGTAVCC, M3 MGTAVTT, M5 MGTAVTTRCAL_115, M6 MGTRREF_115, N6 MGTVCCAUX
part G pins: C8 CCLK_0, G7 INIT_B_0, J7 DONE_0, L7 VCCO_0, L8 TCK_0, N8 TMS_0, N11 VREFN_0, N12 VP_0, P5 M2_0, P6 PROGRAM_B_0, P7 CFGBVS_0, P11 VN_0, P12 VREFP_0, R6 TDI_0, R7 TDO_0, R11 DXN_0, R12 DXP_0, T2 M1_0, T5 M0_0, T6 VCCO_0
part H pins: A1 GND, A2 GND, A5 GND, A6 GND, A7 GND, A16 GND, A26 GND, AA6 GND, AA16 GND, AA26 GND, AB3 GND, AB13 GND, AB23 GND, AC10 GND, AC20 GND, AD7 GND, AD17 GND, AE4 GND, AE14 GND, AE24 GND, AF1 GND, AF11 GND, AF21 GND, B4 GND, B7 GND, B13 GND, B23 GND, C1 GND, C5 GND, C7 GND, C10 GND, C20 GND, D4 GND, D7 GND, D17 GND, E1 GND, E2 GND, E5 GND, E7 GND, E8 VCCBATT_0, E14 GND, E24 GND, F3 GND, F4 GND, F7 GND, F11 GND, F21 GND, G1 GND, G5 GND, G8 GND, G18 GND, H4 GND, H7 GND, H15 GND, H25 GND, J1 GND, J2 GND, J5 GND, J9 VCCINT, J12 GND, J22 GND, K3 GND, K4 GND, K7 GND, K8 VCCINT, K9 GND, K10 VCCINT, K11 GND, K12 VCCINT, K13 GND, K14 VCCINT, K19 GND, L1 GND, L5 GND, L9 VCCINT, L10 GND, L11 VCCAUX, L12 GND, L13 VCCINT, L14 GND, L15 VCCINT, L16 GND, L26 GND, M4 GND, M7 GND, M8 VCCINT, M9 GND, M10 VCCAUX, M11 GNDADC_0, M12 VCCADC_0, M13 GND, M14 VCCINT, M15 GND, M23 GND, N1 GND, N2 GND, N5 GND, N7 GND, N9 VCCINT, N10 GND, N13 VCCBRAM, N14 GND, N15 VCCINT, N20 GND, P3 GND, P4 GND, P8 VCCAUX_IO_G0, P9 GND, P10 VCCAUX, P13 GND, P14 VCCINT, P15 GND, P17 GND, R1 GND, R2 GND, R5 GND, R8 GND, R9 VCCAUX_IO_G0, R10 GND, R13 VCCBRAM, R14 GND, R15 VCCINT, R24 GND, T1 GND, T3 GND, T4 GND, T8 VCCAUX_IO_G0, T9 GND, T10 VCCAUX, T11 GND, T12 VCCBRAM, T13 GND, T14 VCCINT, T15 GND, T21 GND, U8 GND, U10 GND, U11 VCCAUX, U12 GND, U13 VCCBRAM, U14 GND, U15 VCCINT, U18 GND, V5 GND, V15 GND, V25 GND, W2 GND, W12 GND, W22 GND, Y9 GND, Y19 GND

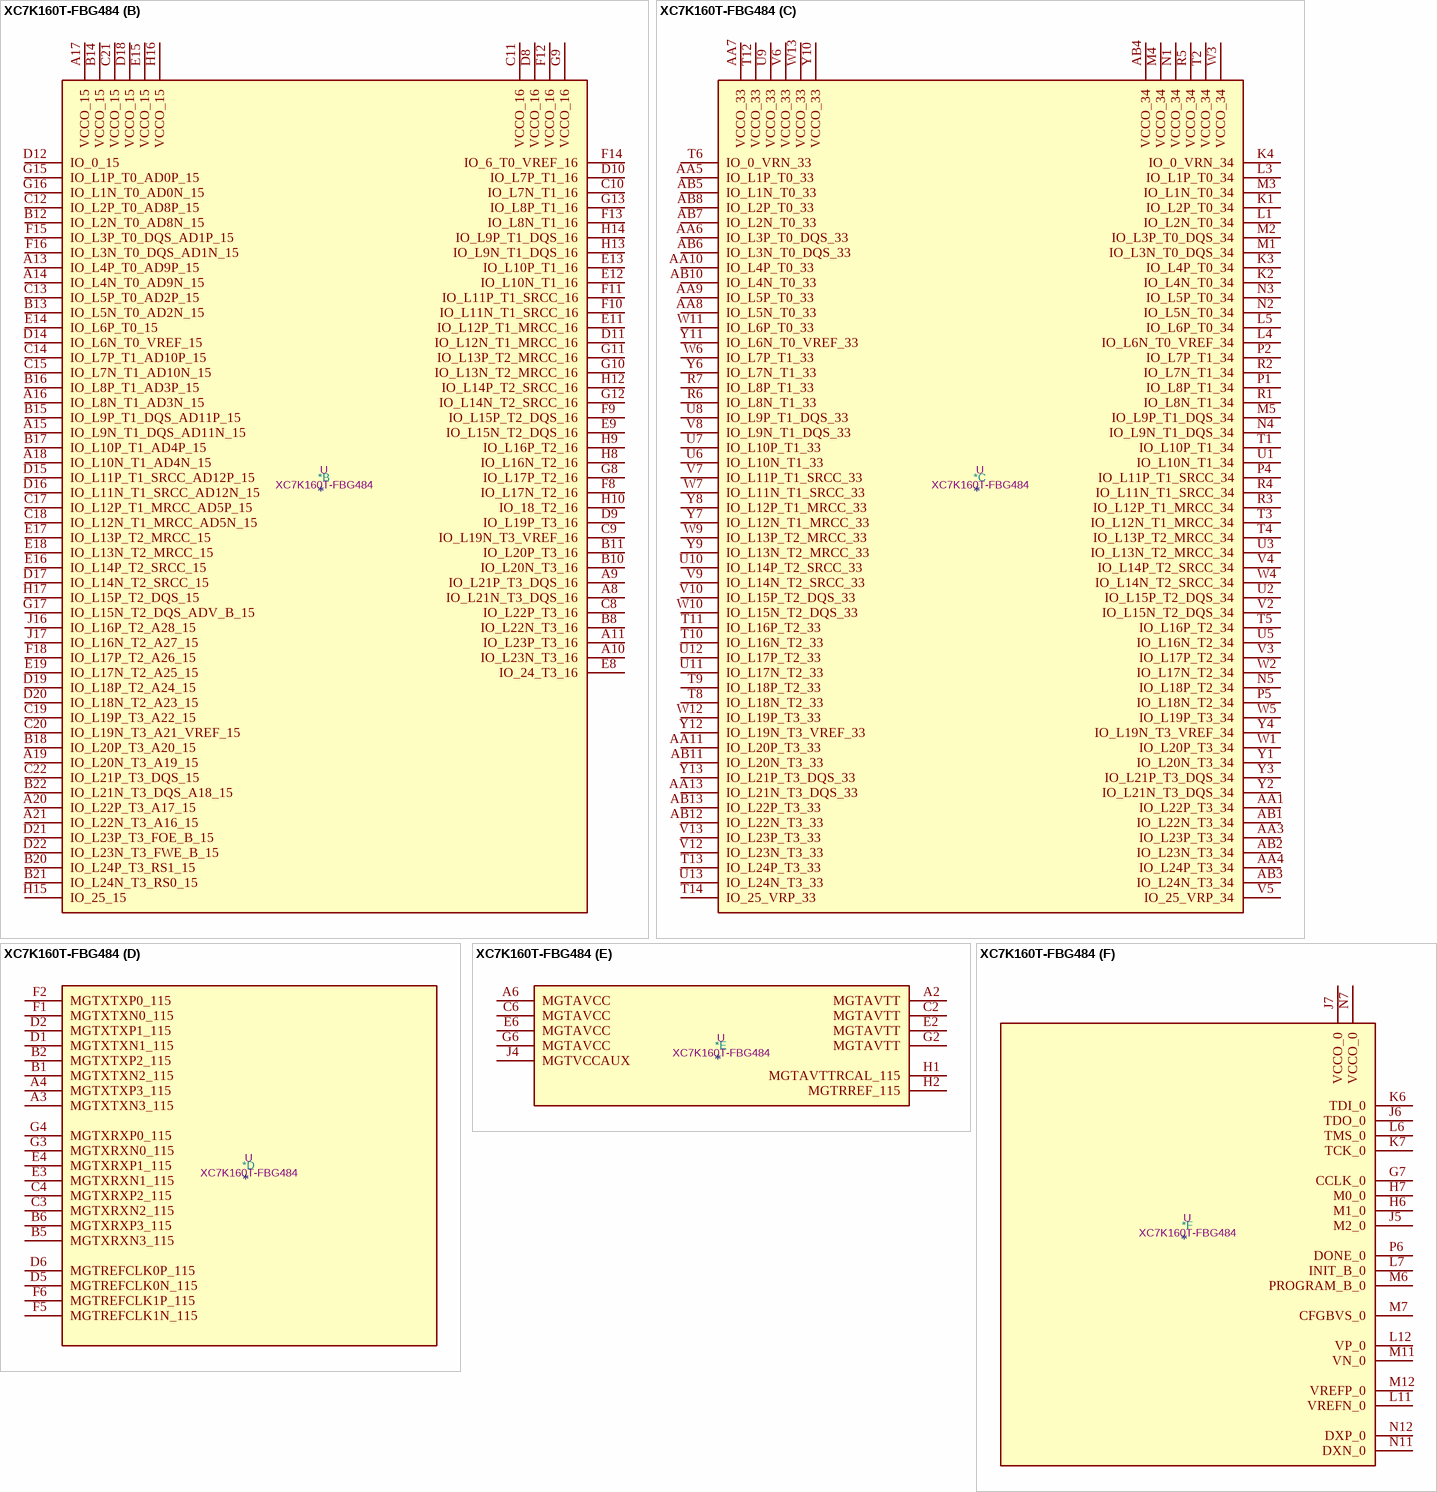
[diagram p5: symbol XC7K160T-FBG484]

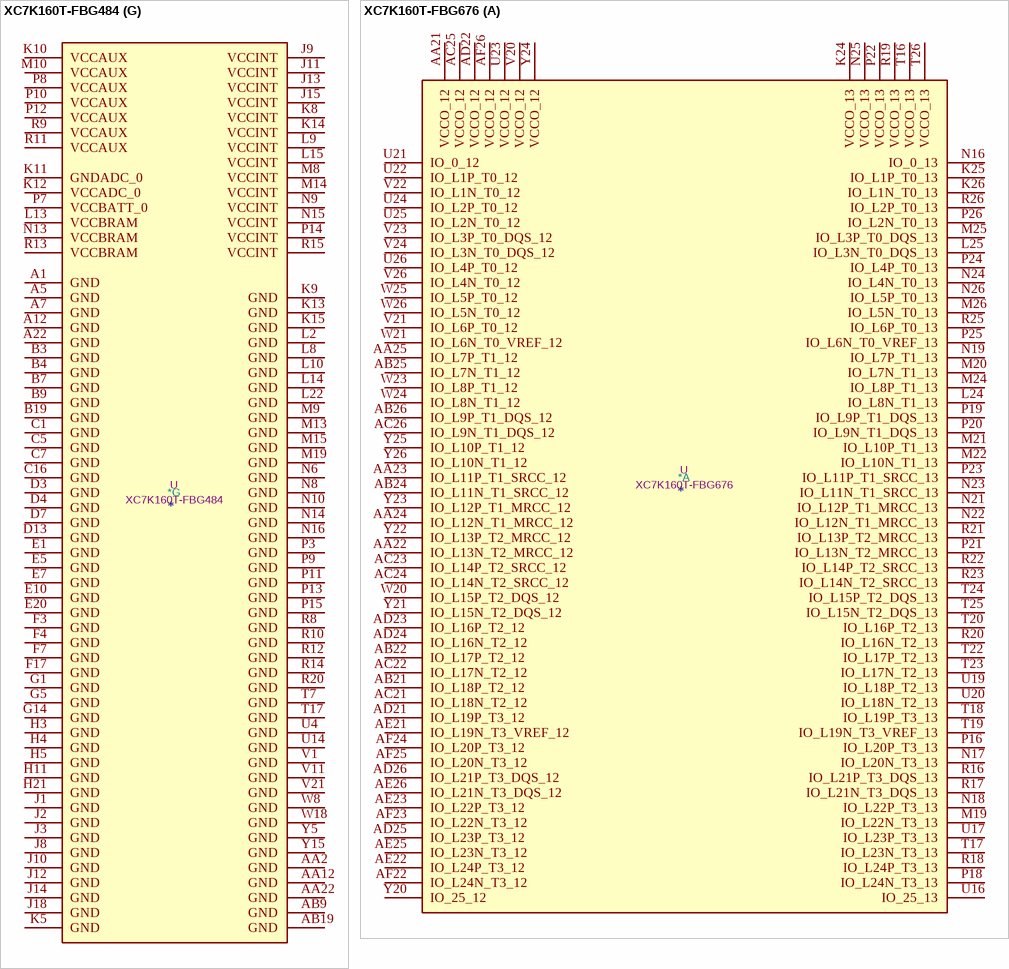
[diagram p6: symbols XC7K160T-FBG484 to XC7K160T-FBG676]

## XC7K160T-FBG484
designator *  value XC7K160T-FBG484  Reference: U
ki_keywords: FPGA; ki_description: Kintex 7 T 160 XC7K160T-FBG484
part A pins: AA14 IO_L18P_T2_13, AA15 IO_L18N_T2_13, AA16 IO_L17P_T2_13, AA17 VCCO_13, AA18 IO_L15P_T2_DQS_13, AA19 IO_L10P_T1_13, AA20 IO_L8P_T1_13, AA21 IO_L9P_T1_DQS_13, AB14 VCCO_13, AB15 IO_L16P_T2_13, AB16 IO_L16N_T2_13, AB17 IO_L17N_T2_13, AB18 IO_L15N_T2_DQS_13, AB20 IO_L10N_T1_13, AB21 IO_L8N_T1_13, AB22 IO_L9N_T1_DQS_13, E21 IO_L7P_T1_D09_14, E22 IO_L7N_T1_D10_14, F19 IO_L2N_T0_D03_14, F20 IO_L4N_T0_D05_14, F21 IO_L9N_T1_DQS_D13_14, F22 VCCO_14, G18 IO_L2P_T0_D02_14, G19 VCCO_14, G20 IO_L4P_T0_D04_14, G21 IO_L9P_T1_DQS_14, G22 IO_L8N_T1_D12_14, H18 IO_L1P_T0_D00_MOSI_14, H19 IO_L1N_T0_D01_DIN_14, H20 IO_L11N_T1_SRCC_14, H22 IO_L8P_T1_D11_14, J19 IO_L3N_T0_DQS_EMCCLK_14, J20 IO_L11P_T1_SRCC_14, J21 IO_L10P_T1_D14_14, J22 IO_L10N_T1_D15_14, K16 IO_0_14, K17 IO_L6N_T0_D08_VREF_14, K18 IO_L3P_T0_DQS_PUDC_B_14, K19 IO_L5N_T0_D07_14, K20 VCCO_14, K21 IO_L16P_T2_CSI_B_14, K22 IO_L16N_T2_A15_D31_14, L16 IO_L6P_T0_FCS_B_14, L17 VCCO_14, L18 IO_L5P_T0_D06_14, L19 IO_L12P_T1_MRCC_14, L20 IO_L12N_T1_MRCC_14, L21 IO_L18N_T2_A11_D27_14, M16 IO_25_14, M17 IO_L14P_T2_SRCC_14, M18 IO_L14N_T2_SRCC_14, M20 IO_L18P_T2_A12_D28_14, M21 IO_L17N_T2_A13_D29_14, M22 IO_L15N_T2_DQS_DOUT_CSO_B_14, N17 IO_L23N_T3_A02_D18_14, N18 IO_L13P_T2_MRCC_14, N19 IO_L13N_T2_MRCC_14, N20 IO_L17P_T2_A14_D30_14, N21 VCCO_14, N22 IO_L15P_T2_DQS_RDWR_B_14, P16 IO_L23P_T3_A03_D19_14, P17 IO_L21N_T3_DQS_A06_D22_14, P18 VCCO_14, P19 IO_L20P_T3_A08_D24_14, P20 IO_L20N_T3_A07_D23_14, P21 IO_L22P_T3_A05_D21_14, P22 IO_L22N_T3_A04_D20_14, R16 IO_L20P_T3_13, R17 IO_L21P_T3_DQS_14, R18 IO_L19P_T3_A10_D26_14, R19 IO_L19N_T3_A09_D25_VREF_14, R21 IO_L24P_T3_A01_D17_14, R22 IO_L24N_T3_A00_D16_14, T15 IO_L24P_T3_13, T16 IO_L20N_T3_13, T18 IO_L3P_T0_DQS_13, T19 IO_0_13, T20 IO_L6P_T0_13, T21 IO_L1P_T0_13, T22 VCCO_13, U15 IO_L24N_T3_13, U16 IO_L19P_T3_13, U17 IO_L5P_T0_13, U18 IO_L3N_T0_DQS_13, U19 VCCO_13, U20 IO_L6N_T0_VREF_13, U21 IO_L1N_T0_13, U22 IO_L2P_T0_13, V14 IO_25_13, V15 IO_L23P_T3_13, V16 VCCO_13, V17 IO_L19N_T3_VREF_13, V18 IO_L5N_T0_13, V19 IO_L12P_T1_MRCC_13, V20 IO_L11P_T1_SRCC_13, V22 IO_L2N_T0_13, W14 IO_L22P_T3_13, W15 IO_L23N_T3_13, W16 IO_L21P_T3_DQS_13, W17 IO_L14P_T2_SRCC_13, W19 IO_L12N_T1_MRCC_13, W20 IO_L11N_T1_SRCC_13, W21 IO_L4P_T0_13, W22 IO_L4N_T0_13, Y14 IO_L22N_T3_13, Y16 IO_L21N_T3_DQS_13, Y17 IO_L14N_T2_SRCC_13, Y18 IO_L13P_T2_MRCC_13, Y19 IO_L13N_T2_MRCC_13, Y20 VCCO_13, Y21 IO_L7P_T1_13, Y22 IO_L7N_T1_13
part B pins: A8 IO_L21N_T3_DQS_16, A9 IO_L21P_T3_DQS_16, A10 IO_L23N_T3_16, A11 IO_L23P_T3_16, A13 IO_L4P_T0_AD9P_15, A14 IO_L4N_T0_AD9N_15, A15 IO_L9N_T1_DQS_AD11N_15, A16 IO_L8N_T1_AD3N_15, A17 VCCO_15, A18 IO_L10N_T1_AD4N_15, A19 IO_L20N_T3_A19_15, A20 IO_L22P_T3_A17_15, A21 IO_L22N_T3_A16_15, B8 IO_L22N_T3_16, B10 IO_L20N_T3_16, B11 IO_L20P_T3_16, B12 IO_L2N_T0_AD8N_15, B13 IO_L5N_T0_AD2N_15, B14 VCCO_15, B15 IO_L9P_T1_DQS_AD11P_15, B16 IO_L8P_T1_AD3P_15, B17 IO_L10P_T1_AD4P_15, B18 IO_L20P_T3_A20_15, B20 IO_L24P_T3_RS1_15, B21 IO_L24N_T3_RS0_15, B22 IO_L21N_T3_DQS_A18_15, C8 IO_L22P_T3_16, C9 IO_L19N_T3_VREF_16, C10 IO_L7N_T1_16, C11 VCCO_16, C12 IO_L2P_T0_AD8P_15, C13 IO_L5P_T0_AD2P_15, C14 IO_L7P_T1_AD10P_15, C15 IO_L7N_T1_AD10N_15, C17 IO_L12P_T1_MRCC_AD5P_15, C18 IO_L12N_T1_MRCC_AD5N_15, C19 IO_L19P_T3_A22_15, C20 IO_L19N_T3_A21_VREF_15, C21 VCCO_15, C22 IO_L21P_T3_DQS_15, D8 VCCO_16, D9 IO_L19P_T3_16, D10 IO_L7P_T1_16, D11 IO_L12N_T1_MRCC_16, D12 IO_0_15, D14 IO_L6N_T0_VREF_15, D15 IO_L11P_T1_SRCC_AD12P_15, D16 IO_L11N_T1_SRCC_AD12N_15, D17 IO_L14N_T2_SRCC_15, D18 VCCO_15, D19 IO_L18P_T2_A24_15, D20 IO_L18N_T2_A23_15, D21 IO_L23P_T3_FOE_B_15, D22 IO_L23N_T3_FWE_B_15, E8 IO_24_T3_16, E9 IO_L15N_T2_DQS_16, E11 IO_L12P_T1_MRCC_16, E12 IO_L10N_T1_16, E13 IO_L10P_T1_16, E14 IO_L6P_T0_15, E15 VCCO_15, E16 IO_L14P_T2_SRCC_15, E17 IO_L13P_T2_MRCC_15, E18 IO_L13N_T2_MRCC_15, E19 IO_L17N_T2_A25_15, F8 IO_L17N_T2_16, F9 IO_L15P_T2_DQS_16, F10 IO_L11N_T1_SRCC_16, F11 IO_L11P_T1_SRCC_16, F12 VCCO_16, F13 IO_L8N_T1_16, F14 IO_6_T0_VREF_16, F15 IO_L3P_T0_DQS_AD1P_15, F16 IO_L3N_T0_DQS_AD1N_15, F18 IO_L17P_T2_A26_15, G8 IO_L17P_T2_16, G9 VCCO_16, G10 IO_L13N_T2_MRCC_16, G11 IO_L13P_T2_MRCC_16, G12 IO_L14N_T2_SRCC_16, G13 IO_L8P_T1_16, G15 IO_L1P_T0_AD0P_15, G16 IO_L1N_T0_AD0N_15, G17 IO_L15N_T2_DQS_ADV_B_15, H8 IO_L16N_T2_16, H9 IO_L16P_T2_16, H10 IO_18_T2_16, H12 IO_L14P_T2_SRCC_16, H13 IO_L9N_T1_DQS_16, H14 IO_L9P_T1_DQS_16, H15 IO_25_15, H16 VCCO_15, H17 IO_L15P_T2_DQS_15, J16 IO_L16P_T2_A28_15, J17 IO_L16N_T2_A27_15
part C pins: AA1 IO_L22P_T3_34, AA3 IO_L23P_T3_34, AA4 IO_L24P_T3_34, AA5 IO_L1P_T0_33, AA6 IO_L3P_T0_DQS_33, AA7 VCCO_33, AA8 IO_L5N_T0_33, AA9 IO_L5P_T0_33, AA10 IO_L4P_T0_33, AA11 IO_L20P_T3_33, AA13 IO_L21N_T3_DQS_33, AB1 IO_L22N_T3_34, AB2 IO_L23N_T3_34, AB3 IO_L24N_T3_34, AB4 VCCO_34, AB5 IO_L1N_T0_33, AB6 IO_L3N_T0_DQS_33, AB7 IO_L2N_T0_33, AB8 IO_L2P_T0_33, AB10 IO_L4N_T0_33, AB11 IO_L20N_T3_33, AB12 IO_L22N_T3_33, AB13 IO_L22P_T3_33, K1 IO_L2P_T0_34, K2 IO_L4N_T0_34, K3 IO_L4P_T0_34, K4 IO_0_VRN_34, L1 IO_L2N_T0_34, L3 IO_L1P_T0_34, L4 IO_L6N_T0_VREF_34, L5 IO_L6P_T0_34, M1 IO_L3N_T0_DQS_34, M2 IO_L3P_T0_DQS_34, M3 IO_L1N_T0_34, M4 VCCO_34, M5 IO_L9P_T1_DQS_34, N1 VCCO_34, N2 IO_L5N_T0_34, N3 IO_L5P_T0_34, N4 IO_L9N_T1_DQS_34, N5 IO_L18P_T2_34, P1 IO_L8P_T1_34, P2 IO_L7P_T1_34, P4 IO_L11P_T1_SRCC_34, P5 IO_L18N_T2_34, R1 IO_L8N_T1_34, R2 IO_L7N_T1_34, R3 IO_L12P_T1_MRCC_34, R4 IO_L11N_T1_SRCC_34, R5 VCCO_34, R6 IO_L8N_T1_33, R7 IO_L8P_T1_33, T1 IO_L10P_T1_34, T2 VCCO_34, T3 IO_L12N_T1_MRCC_34, T4 IO_L13P_T2_MRCC_34, T5 IO_L16P_T2_34, T6 IO_0_VRN_33, T8 IO_L18N_T2_33, T9 IO_L18P_T2_33, T10 IO_L16N_T2_33, T11 IO_L16P_T2_33, T12 VCCO_33, T13 IO_L24P_T3_33, T14 IO_25_VRP_33, U1 IO_L10N_T1_34, U2 IO_L15P_T2_DQS_34, U3 IO_L13N_T2_MRCC_34, U5 IO_L16N_T2_34, U6 IO_L10N_T1_33, U7 IO_L10P_T1_33, U8 IO_L9P_T1_DQS_33, U9 VCCO_33, U10 IO_L14P_T2_SRCC_33, U11 IO_L17N_T2_33, U12 IO_L17P_T2_33, U13 IO_L24N_T3_33, V2 IO_L15N_T2_DQS_34, V3 IO_L17P_T2_34, V4 IO_L14P_T2_SRCC_34, V5 IO_25_VRP_34, V6 VCCO_33, V7 IO_L11P_T1_SRCC_33, V8 IO_L9N_T1_DQS_33, V9 IO_L14N_T2_SRCC_33, V10 IO_L15P_T2_DQS_33, V12 IO_L23N_T3_33, V13 IO_L23P_T3_33, W1 IO_L20P_T3_34, W2 IO_L17N_T2_34, W3 VCCO_34, W4 IO_L14N_T2_SRCC_34, W5 IO_L19P_T3_34, W6 IO_L7P_T1_33, W7 IO_L11N_T1_SRCC_33, W9 IO_L13P_T2_MRCC_33, W10 IO_L15N_T2_DQS_33, W11 IO_L6P_T0_33, W12 IO_L19P_T3_33, W13 VCCO_33, Y1 IO_L20N_T3_34, Y2 IO_L21N_T3_DQS_34, Y3 IO_L21P_T3_DQS_34, Y4 IO_L19N_T3_VREF_34, Y6 IO_L7N_T1_33, Y7 IO_L12N_T1_MRCC_33, Y8 IO_L12P_T1_MRCC_33, Y9 IO_L13N_T2_MRCC_33, Y10 VCCO_33, Y11 IO_L6N_T0_VREF_33, Y12 IO_L19N_T3_VREF_33, Y13 IO_L21P_T3_DQS_33
part D pins: A3 MGTXTXN3_115, A4 MGTXTXP3_115, B1 MGTXTXN2_115, B2 MGTXTXP2_115, B5 MGTXRXN3_115, B6 MGTXRXP3_115, C3 MGTXRXN2_115, C4 MGTXRXP2_115, D1 MGTXTXN1_115, D2 MGTXTXP1_115, D5 MGTREFCLK0N_115, D6 MGTREFCLK0P_115, E3 MGTXRXN1_115, E4 MGTXRXP1_115, F1 MGTXTXN0_115, F2 MGTXTXP0_115, F5 MGTREFCLK1N_115, F6 MGTREFCLK1P_115, G3 MGTXRXN0_115, G4 MGTXRXP0_115
part E pins: A2 MGTAVTT, A6 MGTAVCC, C2 MGTAVTT, C6 MGTAVCC, E2 MGTAVTT, E6 MGTAVCC, G2 MGTAVTT, G6 MGTAVCC, H1 MGTAVTTRCAL_115, H2 MGTRREF_115, J4 MGTVCCAUX
part F pins: G7 CCLK_0, H6 M1_0, H7 M0_0, J5 M2_0, J6 TDO_0, J7 VCCO_0, K6 TDI_0, K7 TCK_0, L6 TMS_0, L7 INIT_B_0, L11 VREFN_0, L12 VP_0, M6 PROGRAM_B_0, M7 CFGBVS_0, M11 VN_0, M12 VREFP_0, N7 VCCO_0, N11 DXN_0, N12 DXP_0, P6 DONE_0
part G pins: A1 GND, A5 GND, A7 GND, A12 GND, A22 GND, AA2 GND, AA12 GND, AA22 GND, AB9 GND, AB19 GND, B3 GND, B4 GND, B7 GND, B9 GND, B19 GND, C1 GND, C5 GND, C7 GND, C16 GND, D3 GND, D4 GND, D7 GND, D13 GND, E1 GND, E5 GND, E7 GND, E10 GND, E20 GND, F3 GND, F4 GND, F7 GND, F17 GND, G1 GND, G5 GND, G14 GND, H3 GND, H4 GND, H5 GND, H11 GND, H21 GND, J1 GND, J2 GND, J3 GND, J8 GND, J9 VCCINT, J10 GND, J11 VCCINT, J12 GND, J13 VCCINT, J14 GND, J15 VCCINT, J18 GND, K5 GND, K8 VCCINT, K9 GND, K10 VCCAUX, K11 GNDADC_0, K12 VCCADC_0, K13 GND, K14 VCCINT, K15 GND, L2 GND, L8 GND, L9 VCCINT, L10 GND, L13 VCCBRAM, L14 GND, L15 VCCINT, L22 GND, M8 VCCINT, M9 GND, M10 VCCAUX, M13 GND, M14 VCCINT, M15 GND, M19 GND, N6 GND, N8 GND, N9 VCCINT, N10 GND, N13 VCCBRAM, N14 GND, N15 VCCINT, N16 GND, P3 GND, P7 VCCBATT_0, P8 VCCAUX, P9 GND, P10 VCCAUX, P11 GND, P12 VCCAUX, P13 GND, P14 VCCINT, P15 GND, R8 GND, R9 VCCAUX, R10 GND, R11 VCCAUX, R12 GND, R13 VCCBRAM, R14 GND, R15 VCCINT, R20 GND, T7 GND, T17 GND, U4 GND, U14 GND, V1 GND, V11 GND, V21 GND, W8 GND, W18 GND, Y5 GND, Y15 GND

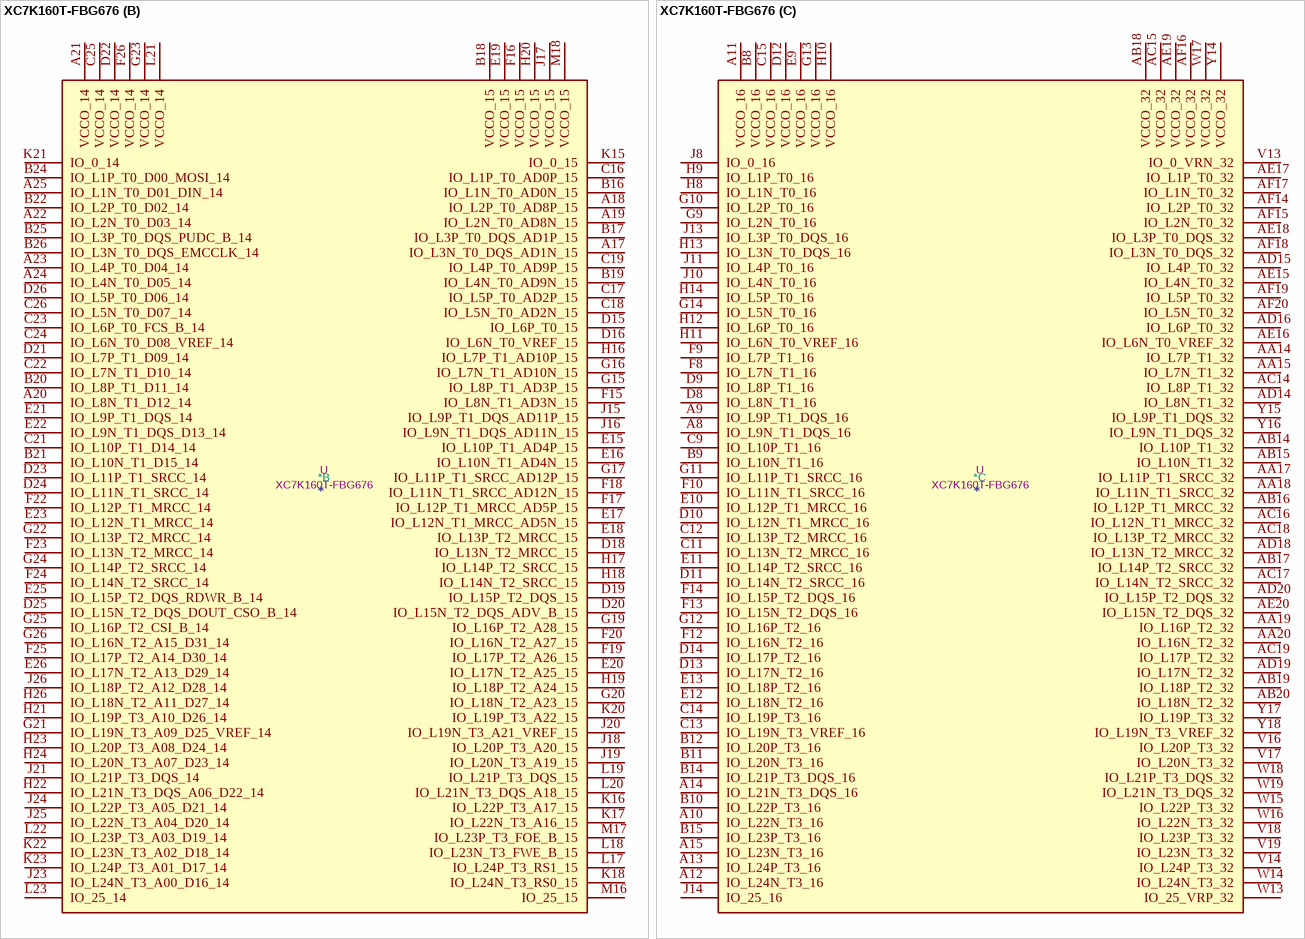
[diagram p7: symbol XC7K160T-FBG676]

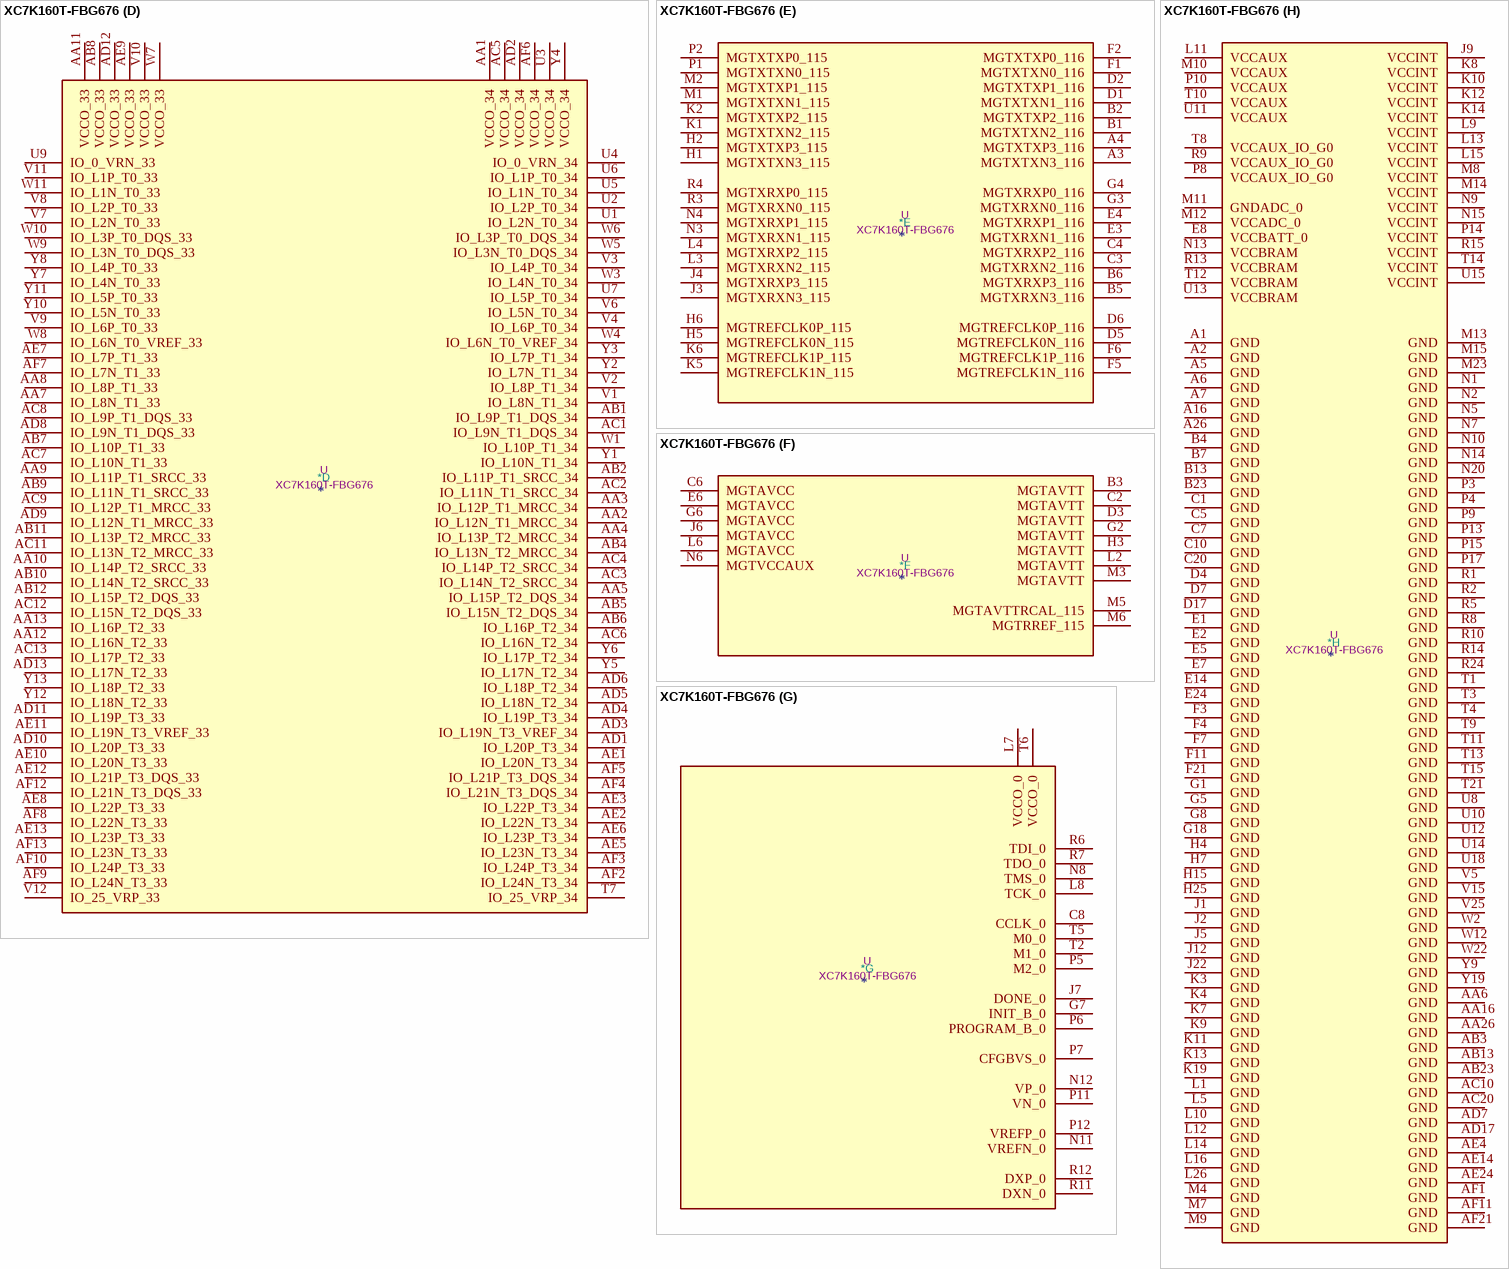
[diagram p8: symbol XC7K160T-FBG676]

## XC7K160T-FBG676
designator *  value XC7K160T-FBG676  Reference: U
ki_keywords: FPGA; ki_description: Kintex 7 T 160 XC7K160T-FBG676
part A pins: AA21 VCCO_12, AA22 IO_L13N_T2_MRCC_12, AA23 IO_L11P_T1_SRCC_12, AA24 IO_L12N_T1_MRCC_12, AA25 IO_L7P_T1_12, AB21 IO_L18P_T2_12, AB22 IO_L17P_T2_12, AB24 IO_L11N_T1_SRCC_12, AB25 IO_L7N_T1_12, AB26 IO_L9P_T1_DQS_12, AC21 IO_L18N_T2_12, AC22 IO_L17N_T2_12, AC23 IO_L14P_T2_SRCC_12, AC24 IO_L14N_T2_SRCC_12, AC25 VCCO_12, AC26 IO_L9N_T1_DQS_12, AD21 IO_L19P_T3_12, AD22 VCCO_12, AD23 IO_L16P_T2_12, AD24 IO_L16N_T2_12, AD25 IO_L23P_T3_12, AD26 IO_L21P_T3_DQS_12, AE21 IO_L19N_T3_VREF_12, AE22 IO_L24P_T3_12, AE23 IO_L22P_T3_12, AE25 IO_L23N_T3_12, AE26 IO_L21N_T3_DQS_12, AF22 IO_L24N_T3_12, AF23 IO_L22N_T3_12, AF24 IO_L20P_T3_12, AF25 IO_L20N_T3_12, AF26 VCCO_12, K24 VCCO_13, K25 IO_L1P_T0_13, K26 IO_L1N_T0_13, L24 IO_L8N_T1_13, L25 IO_L3N_T0_DQS_13, M19 IO_L22N_T3_13, M20 IO_L7N_T1_13, M21 IO_L10P_T1_13, M22 IO_L10N_T1_13, M24 IO_L8P_T1_13, M25 IO_L3P_T0_DQS_13, M26 IO_L5N_T0_13, N16 IO_0_13, N17 IO_L20N_T3_13, N18 IO_L22P_T3_13, N19 IO_L7P_T1_13, N21 IO_L12P_T1_MRCC_13, N22 IO_L12N_T1_MRCC_13, N23 IO_L11N_T1_SRCC_13, N24 IO_L4N_T0_13, N25 VCCO_13, N26 IO_L5P_T0_13, P16 IO_L20P_T3_13, P18 IO_L24N_T3_13, P19 IO_L9P_T1_DQS_13, P20 IO_L9N_T1_DQS_13, P21 IO_L13N_T2_MRCC_13, P22 VCCO_13, P23 IO_L11P_T1_SRCC_13, P24 IO_L4P_T0_13, P25 IO_L6N_T0_VREF_13, P26 IO_L2N_T0_13, R16 IO_L21P_T3_DQS_13, R17 IO_L21N_T3_DQS_13, R18 IO_L24P_T3_13, R19 VCCO_13, R20 IO_L16N_T2_13, R21 IO_L13P_T2_MRCC_13, R22 IO_L14P_T2_SRCC_13, R23 IO_L14N_T2_SRCC_13, R25 IO_L6P_T0_13, R26 IO_L2P_T0_13, T16 VCCO_13, T17 IO_L23N_T3_13, T18 IO_L19P_T3_13, T19 IO_L19N_T3_VREF_13, T20 IO_L16P_T2_13, T22 IO_L17P_T2_13, T23 IO_L17N_T2_13, T24 IO_L15P_T2_DQS_13, T25 IO_L15N_T2_DQS_13, T26 VCCO_13, U16 IO_25_13, U17 IO_L23P_T3_13, U19 IO_L18P_T2_13, U20 IO_L18N_T2_13, U21 IO_0_12, U22 IO_L1P_T0_12, U23 VCCO_12, U24 IO_L2P_T0_12, U25 IO_L2N_T0_12, U26 IO_L4P_T0_12, V20 VCCO_12, V21 IO_L6P_T0_12, V22 IO_L1N_T0_12, V23 IO_L3P_T0_DQS_12, V24 IO_L3N_T0_DQS_12, V26 IO_L4N_T0_12, W20 IO_L15P_T2_DQS_12, W21 IO_L6N_T0_VREF_12, W23 IO_L8P_T1_12, W24 IO_L8N_T1_12, W25 IO_L5P_T0_12, W26 IO_L5N_T0_12, Y20 IO_25_12, Y21 IO_L15N_T2_DQS_12, Y22 IO_L13P_T2_MRCC_12, Y23 IO_L12P_T1_MRCC_12, Y24 VCCO_12, Y25 IO_L10P_T1_12, Y26 IO_L10N_T1_12
part B pins: A17 IO_L3N_T0_DQS_AD1N_15, A18 IO_L2P_T0_AD8P_15, A19 IO_L2N_T0_AD8N_15, A20 IO_L8N_T1_D12_14, A21 VCCO_14, A22 IO_L2N_T0_D03_14, A23 IO_L4P_T0_D04_14, A24 IO_L4N_T0_D05_14, A25 IO_L1N_T0_D01_DIN_14, B16 IO_L1N_T0_AD0N_15, B17 IO_L3P_T0_DQS_AD1P_15, B18 VCCO_15, B19 IO_L4N_T0_AD9N_15, B20 IO_L8P_T1_D11_14, B21 IO_L10N_T1_D15_14, B22 IO_L2P_T0_D02_14, B24 IO_L1P_T0_D00_MOSI_14, B25 IO_L3P_T0_DQS_PUDC_B_14, B26 IO_L3N_T0_DQS_EMCCLK_14, C16 IO_L1P_T0_AD0P_15, C17 IO_L5P_T0_AD2P_15, C18 IO_L5N_T0_AD2N_15, C19 IO_L4P_T0_AD9P_15, C21 IO_L10P_T1_D14_14, C22 IO_L7N_T1_D10_14, C23 IO_L6P_T0_FCS_B_14, C24 IO_L6N_T0_D08_VREF_14, C25 VCCO_14, C26 IO_L5N_T0_D07_14, D15 IO_L6P_T0_15, D16 IO_L6N_T0_VREF_15, D18 IO_L13N_T2_MRCC_15, D19 IO_L15P_T2_DQS_15, D20 IO_L15N_T2_DQS_ADV_B_15, D21 IO_L7P_T1_D09_14, D22 VCCO_14, D23 IO_L11P_T1_SRCC_14, D24 IO_L11N_T1_SRCC_14, D25 IO_L15N_T2_DQS_DOUT_CSO_B_14, D26 IO_L5P_T0_D06_14, E15 IO_L10P_T1_AD4P_15, E16 IO_L10N_T1_AD4N_15, E17 IO_L12N_T1_MRCC_AD5N_15, E18 IO_L13P_T2_MRCC_15, E19 VCCO_15, E20 IO_L17N_T2_A25_15, E21 IO_L9P_T1_DQS_14, E22 IO_L9N_T1_DQS_D13_14, E23 IO_L12N_T1_MRCC_14, E25 IO_L15P_T2_DQS_RDWR_B_14, E26 IO_L17N_T2_A13_D29_14, F15 IO_L8N_T1_AD3N_15, F16 VCCO_15, F17 IO_L12P_T1_MRCC_AD5P_15, F18 IO_L11N_T1_SRCC_AD12N_15, F19 IO_L17P_T2_A26_15, F20 IO_L16N_T2_A27_15, F22 IO_L12P_T1_MRCC_14, F23 IO_L13N_T2_MRCC_14, F24 IO_L14N_T2_SRCC_14, F25 IO_L17P_T2_A14_D30_14, F26 VCCO_14, G15 IO_L8P_T1_AD3P_15, G16 IO_L7N_T1_AD10N_15, G17 IO_L11P_T1_SRCC_AD12P_15, G19 IO_L16P_T2_A28_15, G20 IO_L18N_T2_A23_15, G21 IO_L19N_T3_A09_D25_VREF_14, G22 IO_L13P_T2_MRCC_14, G23 VCCO_14, G24 IO_L14P_T2_SRCC_14, G25 IO_L16P_T2_CSI_B_14, G26 IO_L16N_T2_A15_D31_14, H16 IO_L7P_T1_AD10P_15, H17 IO_L14P_T2_SRCC_15, H18 IO_L14N_T2_SRCC_15, H19 IO_L18P_T2_A24_15, H20 VCCO_15, H21 IO_L19P_T3_A10_D26_14, H22 IO_L21N_T3_DQS_A06_D22_14, H23 IO_L20P_T3_A08_D24_14, H24 IO_L20N_T3_A07_D23_14, H26 IO_L18N_T2_A11_D27_14, J15 IO_L9P_T1_DQS_AD11P_15, J16 IO_L9N_T1_DQS_AD11N_15, J17 VCCO_15, J18 IO_L20P_T3_A20_15, J19 IO_L20N_T3_A19_15, J20 IO_L19N_T3_A21_VREF_15, J21 IO_L21P_T3_DQS_14, J23 IO_L24N_T3_A00_D16_14, J24 IO_L22P_T3_A05_D21_14, J25 IO_L22N_T3_A04_D20_14, J26 IO_L18P_T2_A12_D28_14, K15 IO_0_15, K16 IO_L22P_T3_A17_15, K17 IO_L22N_T3_A16_15, K18 IO_L24N_T3_RS0_15, K20 IO_L19P_T3_A22_15, K21 IO_0_14, K22 IO_L23N_T3_A02_D18_14, K23 IO_L24P_T3_A01_D17_14, L17 IO_L24P_T3_RS1_15, L18 IO_L23N_T3_FWE_B_15, L19 IO_L21P_T3_DQS_15, L20 IO_L21N_T3_DQS_A18_15, L21 VCCO_14, L22 IO_L23P_T3_A03_D19_14, L23 IO_25_14, M16 IO_25_15, M17 IO_L23P_T3_FOE_B_15, M18 VCCO_15
part C pins: A8 IO_L9N_T1_DQS_16, A9 IO_L9P_T1_DQS_16, A10 IO_L22N_T3_16, A11 VCCO_16, A12 IO_L24N_T3_16, A13 IO_L24P_T3_16, A14 IO_L21N_T3_DQS_16, A15 IO_L23N_T3_16, AA14 IO_L7P_T1_32, AA15 IO_L7N_T1_32, AA17 IO_L11P_T1_SRCC_32, AA18 IO_L11N_T1_SRCC_32, AA19 IO_L16P_T2_32, AA20 IO_L16N_T2_32, AB14 IO_L10P_T1_32, AB15 IO_L10N_T1_32, AB16 IO_L12P_T1_MRCC_32, AB17 IO_L14P_T2_SRCC_32, AB18 VCCO_32, AB19 IO_L18P_T2_32, AB20 IO_L18N_T2_32, AC14 IO_L8P_T1_32, AC15 VCCO_32, AC16 IO_L12N_T1_MRCC_32, AC17 IO_L14N_T2_SRCC_32, AC18 IO_L13P_T2_MRCC_32, AC19 IO_L17P_T2_32, AD14 IO_L8N_T1_32, AD15 IO_L4P_T0_32, AD16 IO_L6P_T0_32, AD18 IO_L13N_T2_MRCC_32, AD19 IO_L17N_T2_32, AD20 IO_L15P_T2_DQS_32, AE15 IO_L4N_T0_32, AE16 IO_L6N_T0_VREF_32, AE17 IO_L1P_T0_32, AE18 IO_L3P_T0_DQS_32, AE19 VCCO_32, AE20 IO_L15N_T2_DQS_32, AF14 IO_L2P_T0_32, AF15 IO_L2N_T0_32, AF16 VCCO_32, AF17 IO_L1N_T0_32, AF18 IO_L3N_T0_DQS_32, AF19 IO_L5P_T0_32, AF20 IO_L5N_T0_32, B8 VCCO_16, B9 IO_L10N_T1_16, B10 IO_L22P_T3_16, B11 IO_L20N_T3_16, B12 IO_L20P_T3_16, B14 IO_L21P_T3_DQS_16, B15 IO_L23P_T3_16, C9 IO_L10P_T1_16, C11 IO_L13N_T2_MRCC_16, C12 IO_L13P_T2_MRCC_16, C13 IO_L19N_T3_VREF_16, C14 IO_L19P_T3_16, C15 VCCO_16, D8 IO_L8N_T1_16, D9 IO_L8P_T1_16, D10 IO_L12N_T1_MRCC_16, D11 IO_L14N_T2_SRCC_16, D12 VCCO_16, D13 IO_L17N_T2_16, D14 IO_L17P_T2_16, E9 VCCO_16, E10 IO_L12P_T1_MRCC_16, E11 IO_L14P_T2_SRCC_16, E12 IO_L18N_T2_16, E13 IO_L18P_T2_16, F8 IO_L7N_T1_16, F9 IO_L7P_T1_16, F10 IO_L11N_T1_SRCC_16, F12 IO_L16N_T2_16, F13 IO_L15N_T2_DQS_16, F14 IO_L15P_T2_DQS_16, G9 IO_L2N_T0_16, G10 IO_L2P_T0_16, G11 IO_L11P_T1_SRCC_16, G12 IO_L16P_T2_16, G13 VCCO_16, G14 IO_L5N_T0_16, H8 IO_L1N_T0_16, H9 IO_L1P_T0_16, H10 VCCO_16, H11 IO_L6N_T0_VREF_16, H12 IO_L6P_T0_16, H13 IO_L3N_T0_DQS_16, H14 IO_L5P_T0_16, J8 IO_0_16, J10 IO_L4N_T0_16, J11 IO_L4P_T0_16, J13 IO_L3P_T0_DQS_16, J14 IO_25_16, V13 IO_0_VRN_32, V14 IO_L24P_T3_32, V16 IO_L20P_T3_32, V17 IO_L20N_T3_32, V18 IO_L23P_T3_32, V19 IO_L23N_T3_32, W13 IO_25_VRP_32, W14 IO_L24N_T3_32, W15 IO_L22P_T3_32, W16 IO_L22N_T3_32, W17 VCCO_32, W18 IO_L21P_T3_DQS_32, W19 IO_L21N_T3_DQS_32, Y14 VCCO_32, Y15 IO_L9P_T1_DQS_32, Y16 IO_L9N_T1_DQS_32, Y17 IO_L19P_T3_32, Y18 IO_L19N_T3_VREF_32
part D pins: AA1 VCCO_34, AA2 IO_L12N_T1_MRCC_34, AA3 IO_L12P_T1_MRCC_34, AA4 IO_L13P_T2_MRCC_34, AA5 IO_L15P_T2_DQS_34, AA7 IO_L8N_T1_33, AA8 IO_L8P_T1_33, AA9 IO_L11P_T1_SRCC_33, AA10 IO_L14P_T2_SRCC_33, AA11 VCCO_33, AA12 IO_L16N_T2_33, AA13 IO_L16P_T2_33, AB1 IO_L9P_T1_DQS_34, AB2 IO_L11P_T1_SRCC_34, AB4 IO_L13N_T2_MRCC_34, AB5 IO_L15N_T2_DQS_34, AB6 IO_L16P_T2_34, AB7 IO_L10P_T1_33, AB8 VCCO_33, AB9 IO_L11N_T1_SRCC_33, AB10 IO_L14N_T2_SRCC_33, AB11 IO_L13P_T2_MRCC_33, AB12 IO_L15P_T2_DQS_33, AC1 IO_L9N_T1_DQS_34, AC2 IO_L11N_T1_SRCC_34, AC3 IO_L14N_T2_SRCC_34, AC4 IO_L14P_T2_SRCC_34, AC5 VCCO_34, AC6 IO_L16N_T2_34, AC7 IO_L10N_T1_33, AC8 IO_L9P_T1_DQS_33, AC9 IO_L12P_T1_MRCC_33, AC11 IO_L13N_T2_MRCC_33, AC12 IO_L15N_T2_DQS_33, AC13 IO_L17P_T2_33, AD1 IO_L20P_T3_34, AD2 VCCO_34, AD3 IO_L19N_T3_VREF_34, AD4 IO_L19P_T3_34, AD5 IO_L18N_T2_34, AD6 IO_L18P_T2_34, AD8 IO_L9N_T1_DQS_33, AD9 IO_L12N_T1_MRCC_33, AD10 IO_L20P_T3_33, AD11 IO_L19P_T3_33, AD12 VCCO_33, AD13 IO_L17N_T2_33, AE1 IO_L20N_T3_34, AE2 IO_L22N_T3_34, AE3 IO_L22P_T3_34, AE5 IO_L23N_T3_34, AE6 IO_L23P_T3_34, AE7 IO_L7P_T1_33, AE8 IO_L22P_T3_33, AE9 VCCO_33, AE10 IO_L20N_T3_33, AE11 IO_L19N_T3_VREF_33, AE12 IO_L21P_T3_DQS_33, AE13 IO_L23P_T3_33, AF2 IO_L24N_T3_34, AF3 IO_L24P_T3_34, AF4 IO_L21N_T3_DQS_34, AF5 IO_L21P_T3_DQS_34, AF6 VCCO_34, AF7 IO_L7N_T1_33, AF8 IO_L22N_T3_33, AF9 IO_L24N_T3_33, AF10 IO_L24P_T3_33, AF12 IO_L21N_T3_DQS_33, AF13 IO_L23N_T3_33, T7 IO_25_VRP_34, U1 IO_L2N_T0_34, U2 IO_L2P_T0_34, U3 VCCO_34, U4 IO_0_VRN_34, U5 IO_L1N_T0_34, U6 IO_L1P_T0_34, U7 IO_L5P_T0_34, U9 IO_0_VRN_33, V1 IO_L8N_T1_34, V2 IO_L8P_T1_34, V3 IO_L4P_T0_34, V4 IO_L6P_T0_34, V6 IO_L5N_T0_34, V7 IO_L2N_T0_33, V8 IO_L2P_T0_33, V9 IO_L6P_T0_33, V10 VCCO_33, V11 IO_L1P_T0_33, V12 IO_25_VRP_33, W1 IO_L10P_T1_34, W3 IO_L4N_T0_34, W4 IO_L6N_T0_VREF_34, W5 IO_L3N_T0_DQS_34, W6 IO_L3P_T0_DQS_34, W7 VCCO_33, W8 IO_L6N_T0_VREF_33, W9 IO_L3N_T0_DQS_33, W10 IO_L3P_T0_DQS_33, W11 IO_L1N_T0_33, Y1 IO_L10N_T1_34, Y2 IO_L7N_T1_34, Y3 IO_L7P_T1_34, Y4 VCCO_34, Y5 IO_L17N_T2_34, Y6 IO_L17P_T2_34, Y7 IO_L4N_T0_33, Y8 IO_L4P_T0_33, Y10 IO_L5N_T0_33, Y11 IO_L5P_T0_33, Y12 IO_L18N_T2_33, Y13 IO_L18P_T2_33
part E pins: A3 MGTXTXN3_116, A4 MGTXTXP3_116, B1 MGTXTXN2_116, B2 MGTXTXP2_116, B5 MGTXRXN3_116, B6 MGTXRXP3_116, C3 MGTXRXN2_116, C4 MGTXRXP2_116, D1 MGTXTXN1_116, D2 MGTXTXP1_116, D5 MGTREFCLK0N_116, D6 MGTREFCLK0P_116, E3 MGTXRXN1_116, E4 MGTXRXP1_116, F1 MGTXTXN0_116, F2 MGTXTXP0_116, F5 MGTREFCLK1N_116, F6 MGTREFCLK1P_116, G3 MGTXRXN0_116, G4 MGTXRXP0_116, H1 MGTXTXN3_115, H2 MGTXTXP3_115, H5 MGTREFCLK0N_115, H6 MGTREFCLK0P_115, J3 MGTXRXN3_115, J4 MGTXRXP3_115, K1 MGTXTXN2_115, K2 MGTXTXP2_115, K5 MGTREFCLK1N_115, K6 MGTREFCLK1P_115, L3 MGTXRXN2_115, L4 MGTXRXP2_115, M1 MGTXTXN1_115, M2 MGTXTXP1_115, N3 MGTXRXN1_115, N4 MGTXRXP1_115, P1 MGTXTXN0_115, P2 MGTXTXP0_115, R3 MGTXRXN0_115, R4 MGTXRXP0_115
part F pins: B3 MGTAVTT, C2 MGTAVTT, C6 MGTAVCC, D3 MGTAVTT, E6 MGTAVCC, G2 MGTAVTT, G6 MGTAVCC, H3 MGTAVTT, J6 MGTAVCC, L2 MGTAVTT, L6 MGTAVCC, M3 MGTAVTT, M5 MGTAVTTRCAL_115, M6 MGTRREF_115, N6 MGTVCCAUX
part G pins: C8 CCLK_0, G7 INIT_B_0, J7 DONE_0, L7 VCCO_0, L8 TCK_0, N8 TMS_0, N11 VREFN_0, N12 VP_0, P5 M2_0, P6 PROGRAM_B_0, P7 CFGBVS_0, P11 VN_0, P12 VREFP_0, R6 TDI_0, R7 TDO_0, R11 DXN_0, R12 DXP_0, T2 M1_0, T5 M0_0, T6 VCCO_0
part H pins: A1 GND, A2 GND, A5 GND, A6 GND, A7 GND, A16 GND, A26 GND, AA6 GND, AA16 GND, AA26 GND, AB3 GND, AB13 GND, AB23 GND, AC10 GND, AC20 GND, AD7 GND, AD17 GND, AE4 GND, AE14 GND, AE24 GND, AF1 GND, AF11 GND, AF21 GND, B4 GND, B7 GND, B13 GND, B23 GND, C1 GND, C5 GND, C7 GND, C10 GND, C20 GND, D4 GND, D7 GND, D17 GND, E1 GND, E2 GND, E5 GND, E7 GND, E8 VCCBATT_0, E14 GND, E24 GND, F3 GND, F4 GND, F7 GND, F11 GND, F21 GND, G1 GND, G5 GND, G8 GND, G18 GND, H4 GND, H7 GND, H15 GND, H25 GND, J1 GND, J2 GND, J5 GND, J9 VCCINT, J12 GND, J22 GND, K3 GND, K4 GND, K7 GND, K8 VCCINT, K9 GND, K10 VCCINT, K11 GND, K12 VCCINT, K13 GND, K14 VCCINT, K19 GND, L1 GND, L5 GND, L9 VCCINT, L10 GND, L11 VCCAUX, L12 GND, L13 VCCINT, L14 GND, L15 VCCINT, L16 GND, L26 GND, M4 GND, M7 GND, M8 VCCINT, M9 GND, M10 VCCAUX, M11 GNDADC_0, M12 VCCADC_0, M13 GND, M14 VCCINT, M15 GND, M23 GND, N1 GND, N2 GND, N5 GND, N7 GND, N9 VCCINT, N10 GND, N13 VCCBRAM, N14 GND, N15 VCCINT, N20 GND, P3 GND, P4 GND, P8 VCCAUX_IO_G0, P9 GND, P10 VCCAUX, P13 GND, P14 VCCINT, P15 GND, P17 GND, R1 GND, R2 GND, R5 GND, R8 GND, R9 VCCAUX_IO_G0, R10 GND, R13 VCCBRAM, R14 GND, R15 VCCINT, R24 GND, T1 GND, T3 GND, T4 GND, T8 VCCAUX_IO_G0, T9 GND, T10 VCCAUX, T11 GND, T12 VCCBRAM, T13 GND, T14 VCCINT, T15 GND, T21 GND, U8 GND, U10 GND, U11 VCCAUX, U12 GND, U13 VCCBRAM, U14 GND, U15 VCCINT, U18 GND, V5 GND, V15 GND, V25 GND, W2 GND, W12 GND, W22 GND, Y9 GND, Y19 GND

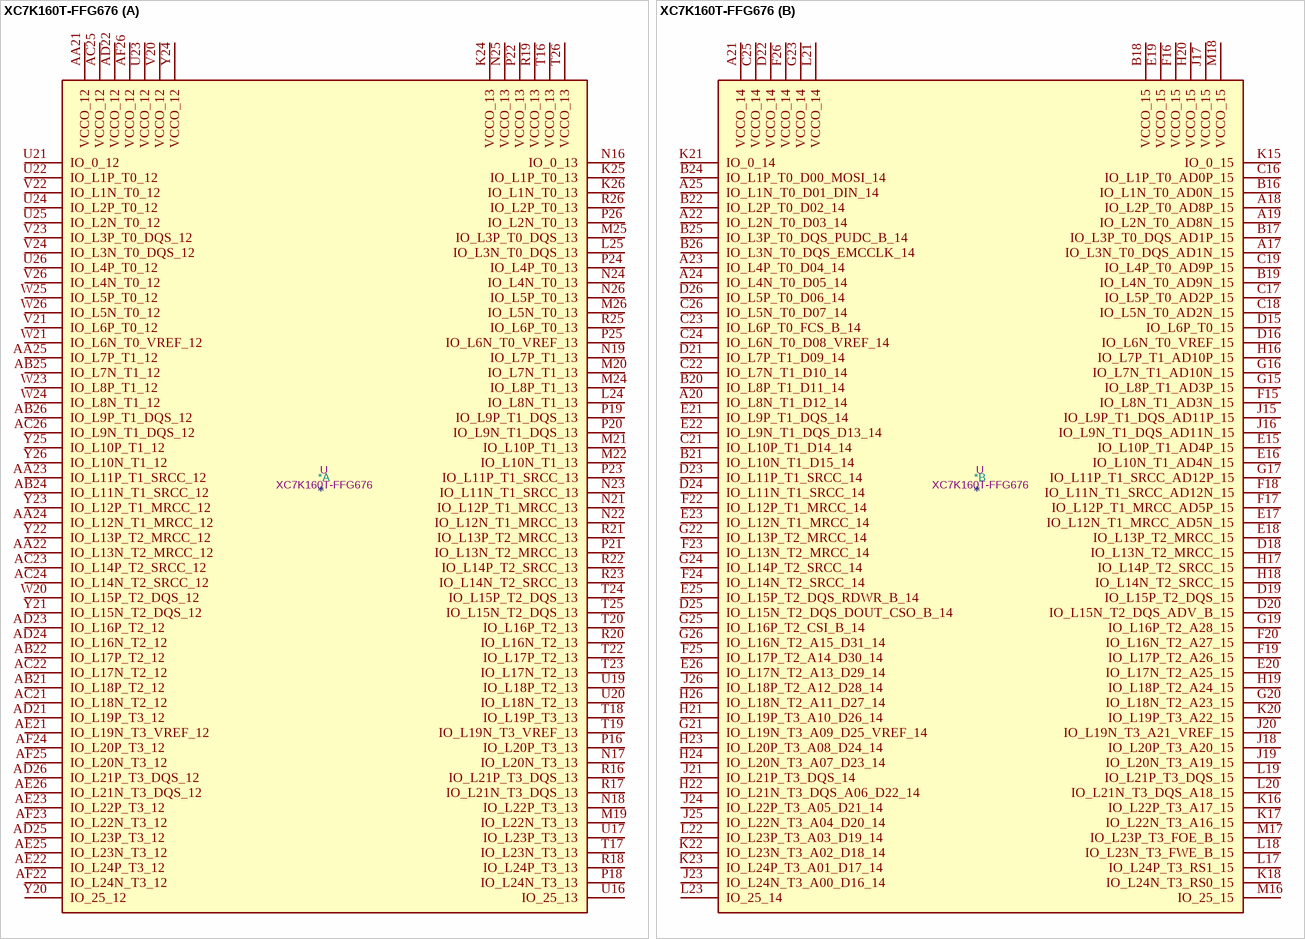
[diagram p9: symbol XC7K160T-FFG676]

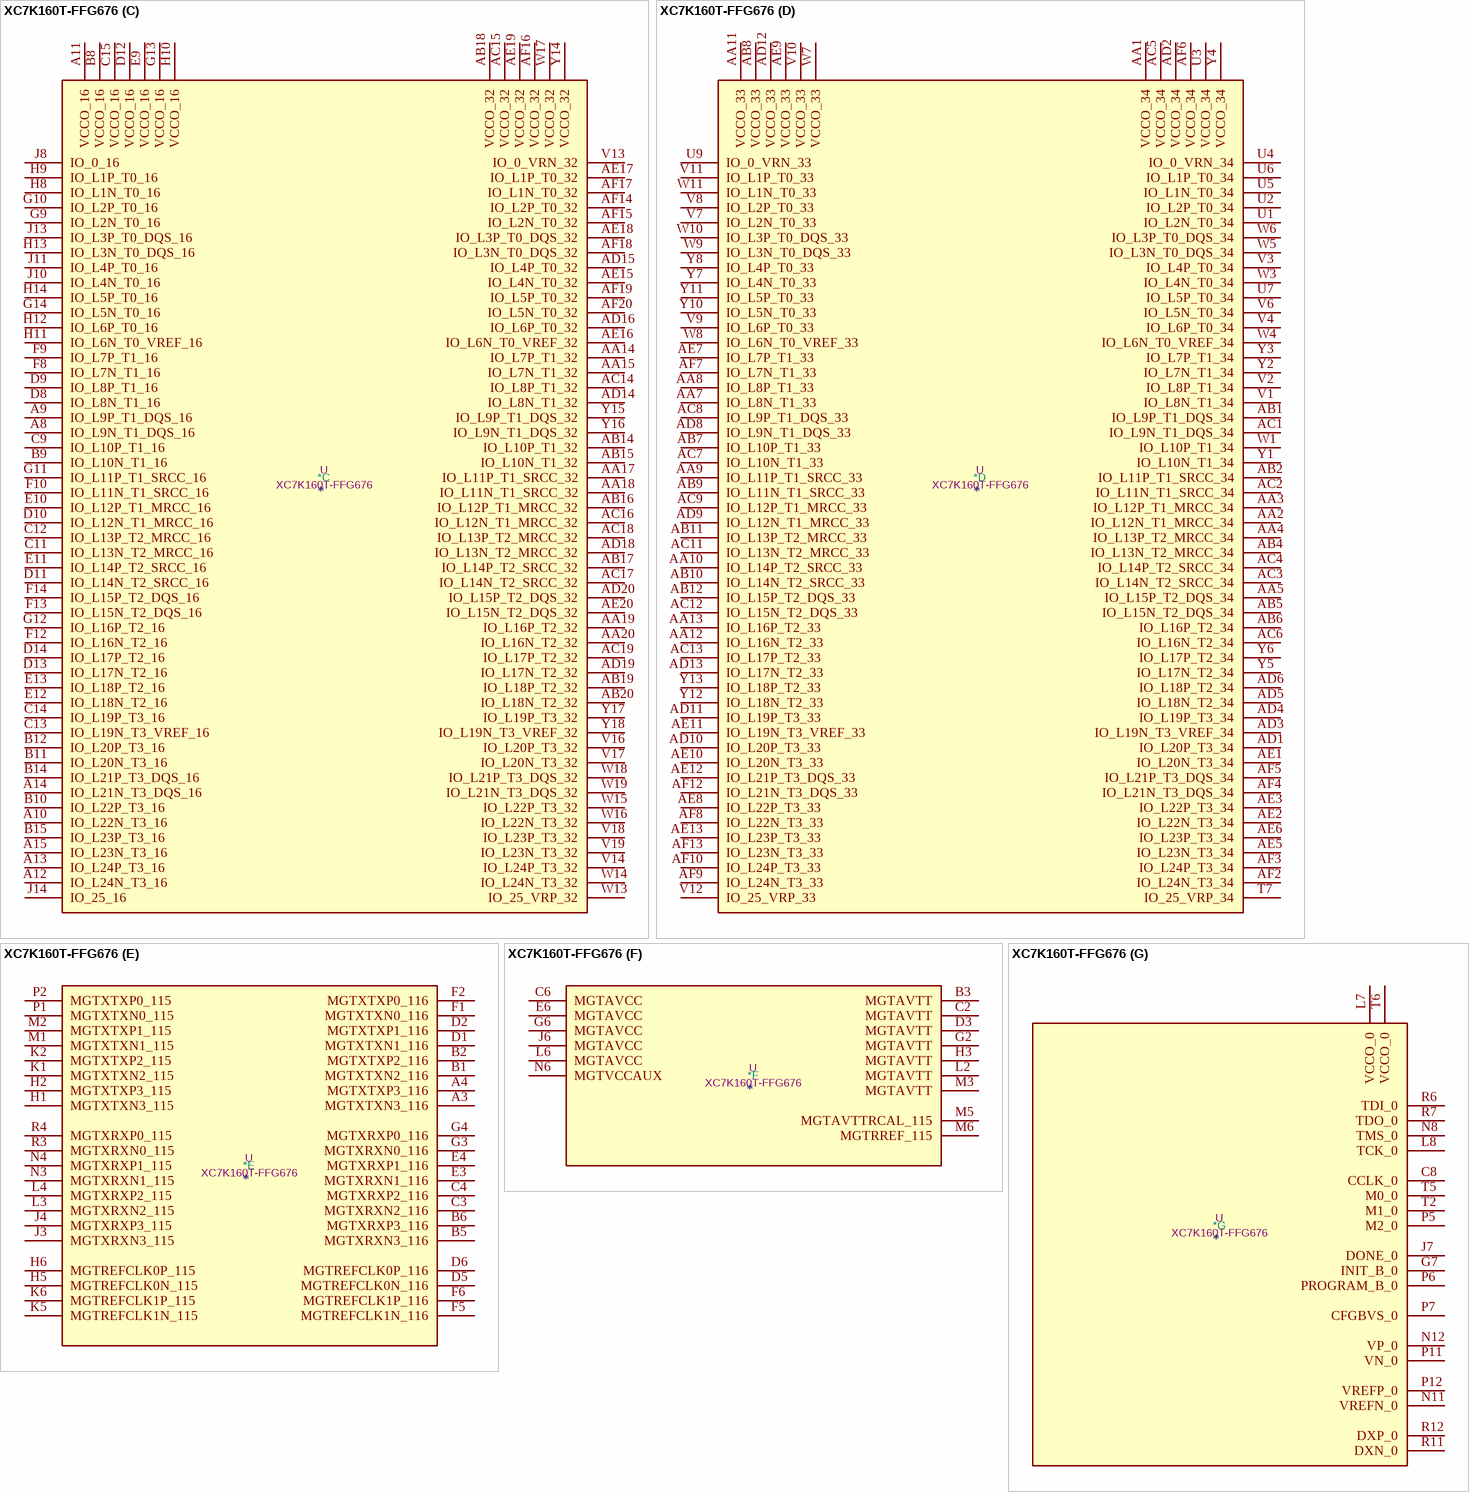
[diagram p10: symbol XC7K160T-FFG676]

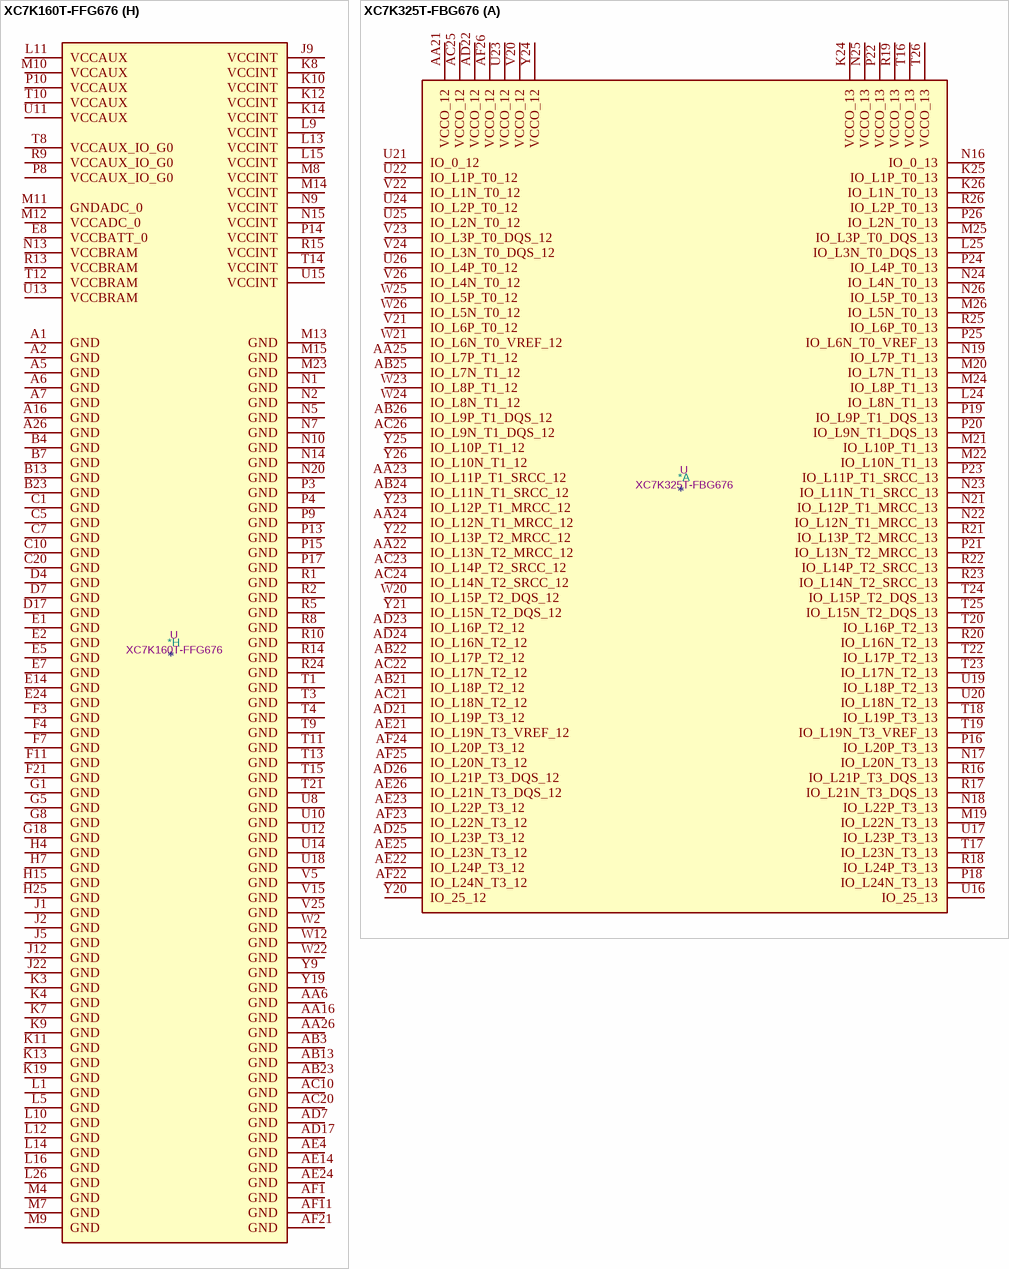
[diagram p11: symbols XC7K160T-FFG676 to XC7K325T-FBG676]